# Altium schematic symbol library TAUV-Lib.SchLib: 493 symbols (part 4 of 5)
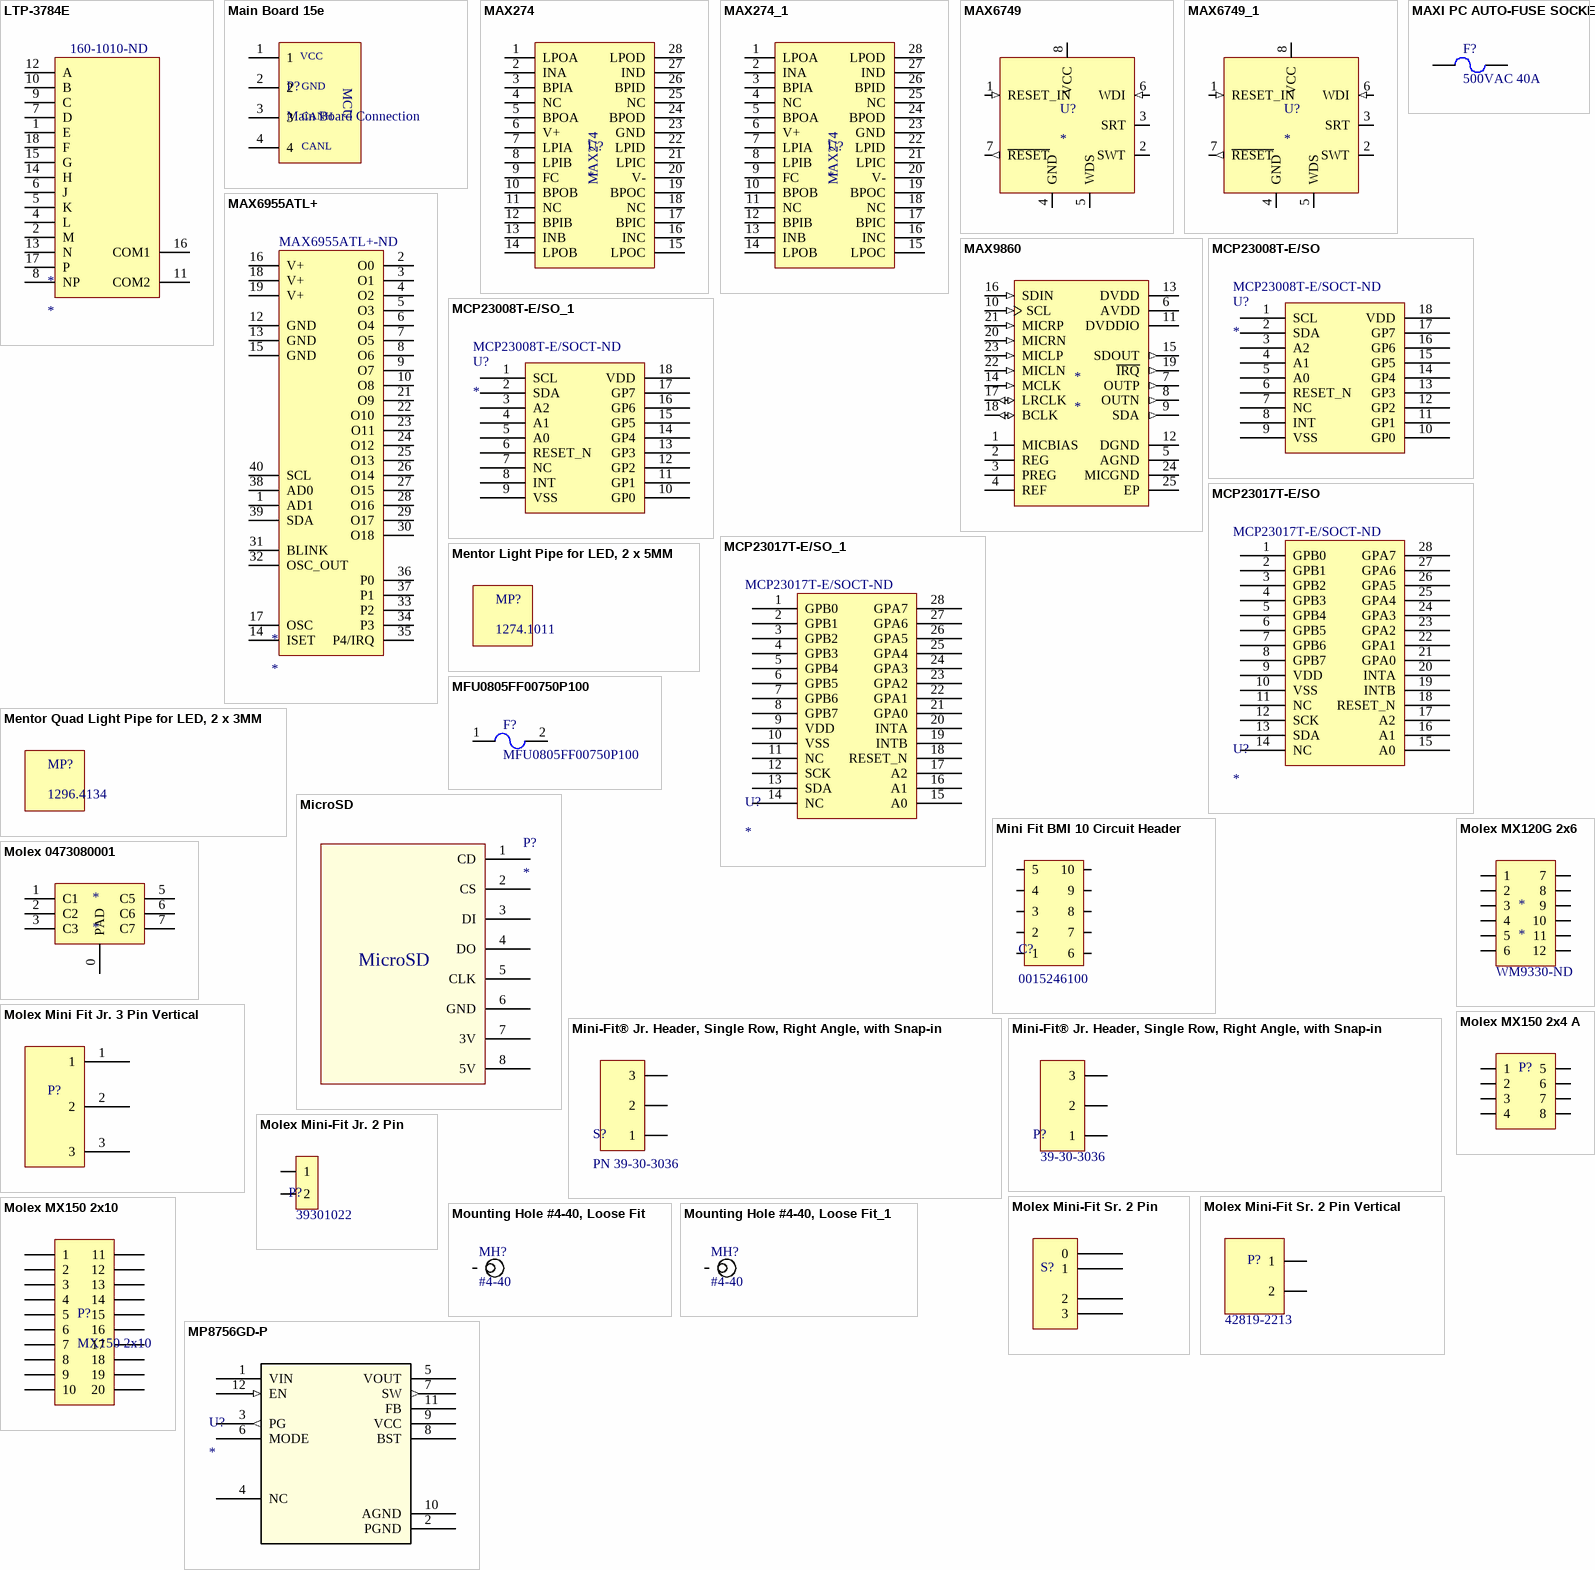
[diagram p17: symbols LTP-3784E to MP8756GD-P]

## Molex MX120G 2x6
designator *  Supplier Part Number 1: WM9330-ND
CONN HEADR 12POS 3.2MM SEALED; Manufacturer: Molex, LLC; Manufacturer Part Number: 0367831201; Connector Type: Header; Pitch - Mating: 0.126" (3.20mm); Number of Positions: 12; Row Spacing - Mating: 0.233" (5.93mm); Number of Positions Loaded: All; Style: Board to Cable/Wire; Shrouding: Shrouded - 4 Wall; Ingress Protection: IP67 - Dust Tight, Waterproof; Material Flammability Rating: UL94 HB; Supplier 1: Digi-Key; RoHS: RoHS Compliant; Category: Connectors, Interconnects; Stock 1: 13538; Pricing 1: 1=1.38, 10=1.21, 100=1.0437, 500=0.85392, 1000=0.75904, 5000=0.66416, 10000=0.63095 (USD); Packaging: Bulk; Part Status: Active; Contact Type: Male Pin; Number of Rows: 2; Mounting Type: Panel Mount, Through Hole, Right Angle; Termination: Solder; Fastening Type: Locking Ramp; Contact Length - Mating: -; Contact Length - Post: -; Overall Contact Length: -; Insulation Height: 0.649" (16.49mm); Contact Shape: Square; Contact Finish - Mating: Tin; Contact Finish Thickness - Mating: 39µin (1.00µm); Contact Finish - Post: Tin; Contact Material: Brass; Insulation Material: Polyamide (PA), Nylon, Glass Filled; Features: Board Lock; Operating Temperature: -; Insulation Color: Black; Current Rating: -; Voltage Rating: -; Mated Stacking Heights: -; Contact Finish Thickness - Post: -; Applications: Automotive, Industrial, Lighting, Medical; ComponentLink1URL: http://www.molex.com/pdm_docs/sd/367831201_sd.pdf; ComponentLink1Description: http://www.molex.com/pdm_docs/sd/367831201_sd.pdf
footprint MOLEX MX120G 2x6
pins: 1, 2, 3, 4, 5, 6, 7, 8, 9, 10, 11, 12

## Molex MX150 2x4 A
designator P?, comment MX150 2x4  (value not drawn)
MX150™ 2x4 Dual Row Right Angle Header, 8 Circuits, Polarization A, Black, Solder Tail; Part Number: 34830-0801; Wire Gauge: 14-22 AWG; Max Current: 22A; Max Voltage: 500 Vdc; Sealed: Yes; Rows: 2; Circuits: 8
footprint MOLEX MX150 2x4
pins: 1, 2, 3, 4, 5, 6, 7, 8

## Molex MX150 2x10
designator P?, comment MX150 2x10
MX150™ 2x10 Dual Row Right Angle Header, 20 Circuits, Polarization A, Black, Solder Tail; Part Number: 34830-2001; Rows: 2; Circuits: 20; Sealed: Yes; Max Current: 22A; Max Voltage: 250V
footprint MOLEX MX150 2X10
pins: 1, 2, 3, 4, 5, 6, 7, 8, 9, 10, 11, 12, 13, 14, 15, 16, 17, 18, 19, 20

## Mounting Hole #4-40, Loose Fit
designator MH?, comment #4-40
Mounting Hole for ANSI #4-40 w/ Flat Washer, Loose Fit; Datasheet: http://blogs.mentor.com/tom-hausherr/blog/tag/pcb-mounting-holes/
footprint Mounting Hole #4-40 (Mounting Hole for ANSI #4-40 w/ Flat Washer, Loose Fit)
pins: 0

## Mounting Hole #4-40, Loose Fit_1
designator MH?, comment #4-40
Mounting Hole for ANSI #4-40 w/ Flat Washer, Loose Fit; Datasheet: http://blogs.mentor.com/tom-hausherr/blog/tag/pcb-mounting-holes/
footprint Mounting Hole #4-40 (Mounting Hole for ANSI #4-40 w/ Flat Washer, Loose Fit)
pins: 0

## MP8756GD-P
designator U?
No Description Available; Mfr_Name: Monolithic Power Systems; RefDes: RefDes; Type: Type
footprint QFN-12_MP8756_MNP
pins: 1 VIN (power), 2 PGND (power), 3 PG (out), 4 NC, 5 VOUT (power), 6 MODE, 7 SW (out), 8 BST (power), 9 VCC (power), 10 AGND (power), 11 FB, 12 EN (in)

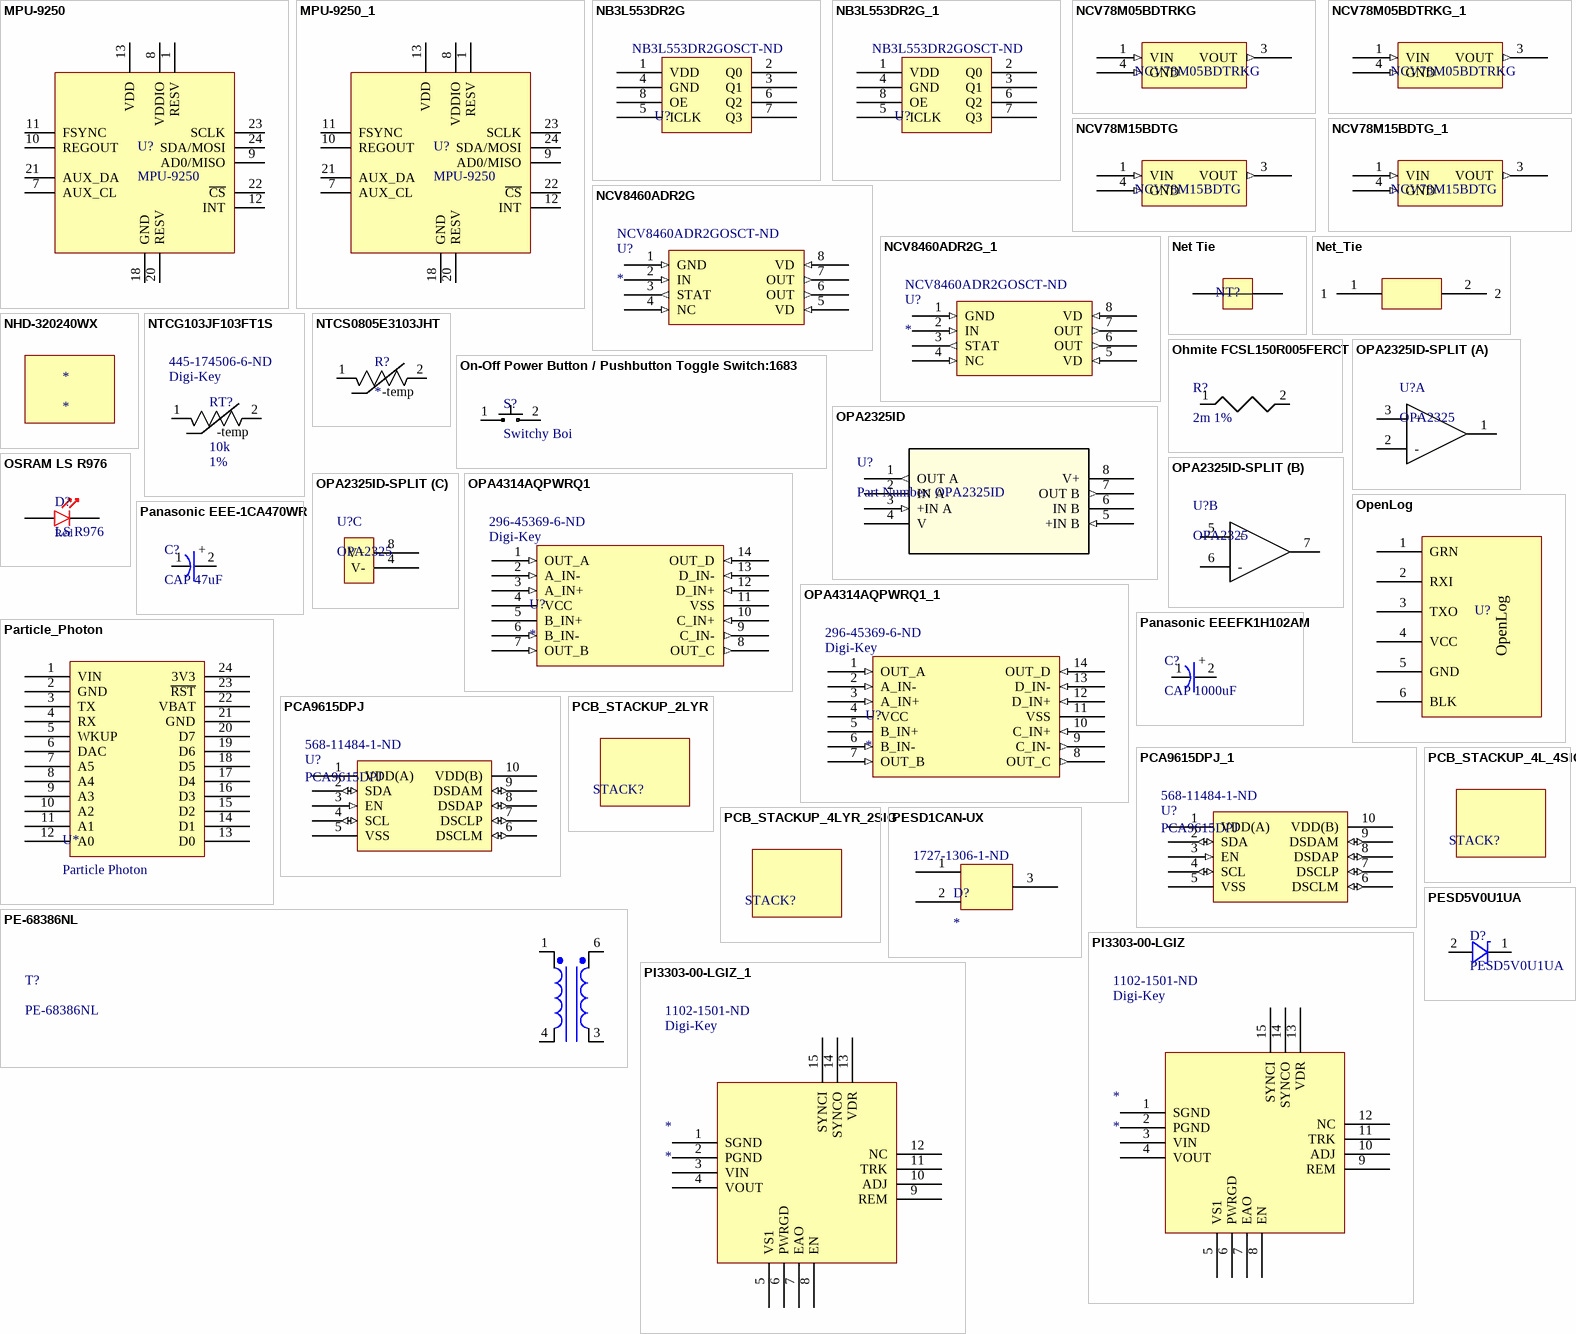
[diagram p9: symbols MPU-9250 to PI3303-00-LGIZ_1]

## MPU-9250
designator U?
InvenSense MPU-9250 9-axis IMU; Component Author: semerson; Datasheet: http://43zrtwysvxb2gf29r5o0athu.wpengine.netdna-cdn.com/wp-content/uploads/2015/02/MPU-9250-Datasheet.pdf; Manufacturer: InvenSense; Supplier 1: Digi-Key; Supplier Part Number 1: 1428-1019-1-ND
footprint MPU-9250 (InvenSense MPU-9250 9-axis IMU)
pins: 1 RESV, 7 AUX_CL, 8 VDDIO, 9 AD0/MISO, 10 REGOUT, 11 FSYNC, 12 INT, 13 VDD, 18 GND, 20 RESV, 21 AUX_DA, 22 ~{CS}, 23 SCLK, 24 SDA/MOSI

## MPU-9250_1
designator U?, comment MPU-9250
InvenSense MPU-9250 9-axis IMU; Component Author: semerson; Datasheet: http://43zrtwysvxb2gf29r5o0athu.wpengine.netdna-cdn.com/wp-content/uploads/2015/02/MPU-9250-Datasheet.pdf; Manufacturer: InvenSense; Supplier 1: Digi-Key; Supplier Part Number 1: 1428-1019-1-ND
footprint MPU-9250 (InvenSense MPU-9250 9-axis IMU)
pins: 1 RESV, 7 AUX_CL, 8 VDDIO, 9 AD0/MISO, 10 REGOUT, 11 FSYNC, 12 INT, 13 VDD, 18 GND, 20 RESV, 21 AUX_DA, 22 ~{CS}, 23 SCLK, 24 SDA/MOSI

## NB3L553DR2G
designator U?  Supplier Part Number 1: NB3L553DR2GOSCT-ND
IC CLK BUFFER 1:4 200MHZ 8SOIC; Supplier 1: Digi-Key
footprint SOIC127P600X175-8N-L (SOIC, 8-Leads, Body 4.90x3.90mm, Pitch 1.27mm, IPC Medium Density)
pins: 1 VDD, 2 Q0, 3 Q1, 4 GND, 5 ICLK, 6 Q2, 7 Q3, 8 OE

## NB3L553DR2G_1
designator U?  Supplier Part Number 1: NB3L553DR2GOSCT-ND
IC CLK BUFFER 1:4 200MHZ 8SOIC; Supplier 1: Digi-Key
footprint SOIC127P600X175-8N-L (SOIC, 8-Leads, Body 4.90x3.90mm, Pitch 1.27mm, IPC Medium Density)
pins: 1 VDD, 2 Q0, 3 Q1, 4 GND, 5 ICLK, 6 Q2, 7 Q3, 8 OE

## NCV78M05BDTRKG
designator NCV78M05BDTRKG  (value not drawn)
http://www.onsemi.com/pub/Collateral/MC78M00-D.PDF; Manufacturer p#: NCV78M05BDTRKG; Voltage in: <35V; Voltage out: 5V; Supplier: Digikey; Supplier p#: NCV78M05BDTRKGOSCT-ND
footprint TO-252 (D-PAK)
pins: 1 VIN (in), 3 VOUT (out), 4 GND (in)

## NCV78M05BDTRKG_1
designator NCV78M05BDTRKG  (value not drawn)
http://www.onsemi.com/pub/Collateral/MC78M00-D.PDF; Manufacturer p#: NCV78M05BDTRKG; Voltage in: <35V; Voltage out: 5V; Supplier: Digikey; Supplier p#: NCV78M05BDTRKGOSCT-ND
footprint TO-252 (D-PAK)
pins: 1 VIN (in), 3 VOUT (out), 4 GND (in)

## NCV78M15BDTG
designator NCV78M15BDTG  (value not drawn)
http://www.onsemi.com/pub/Collateral/MC78M00-D.PDF; Manufacturer p#: NCV78M15BDTG; Voltage in: <35V; Voltage out: 15V; Supplier: Digikey; Supplier p#: NCV78M15BDTG-ND
footprint TO-252 (D-PAK)
pins: 1 VIN (in), 3 VOUT (out), 4 GND (in)

## NCV78M15BDTG_1
designator NCV78M15BDTG  (value not drawn)
http://www.onsemi.com/pub/Collateral/MC78M00-D.PDF; Manufacturer p#: NCV78M15BDTG; Voltage in: <35V; Voltage out: 15V; Supplier: Digikey; Supplier p#: NCV78M15BDTG-ND
footprint TO-252 (D-PAK)
pins: 1 VIN (in), 3 VOUT (out), 4 GND (in)

## NCV8460ADR2G
designator U?  Supplier Part Number 1: NCV8460ADR2GOSCT-ND
IC DRIVER HIGH SIDE 8SOIC; ComponentLink1Description: Digikey Link; ComponentLink1URL: https://www.digikey.com/product-detail/en/on-semiconductor/NCV8460ADR2G/NCV8460ADR2GOSCT-ND/5969028; Supplier 1: Digi-Key
footprint SOIC127P600X175-8N (SOIC, 8-Leads, Body 4.90x3.90mm, Pitch 1.27mm, IPC Medium Density)
pins: 1 GND (in), 2 IN (in), 3 STAT (out), 4 NC (in), 5 VD (in), 6 OUT (out), 7 OUT (out), 8 VD (in)

## NCV8460ADR2G_1
designator U?  Supplier Part Number 1: NCV8460ADR2GOSCT-ND
IC DRIVER HIGH SIDE 8SOIC; ComponentLink1Description: Digikey Link; ComponentLink1URL: https://www.digikey.com/product-detail/en/on-semiconductor/NCV8460ADR2G/NCV8460ADR2GOSCT-ND/5969028; Supplier 1: Digi-Key
footprint SOIC127P600X175-8N (SOIC, 8-Leads, Body 4.90x3.90mm, Pitch 1.27mm, IPC Medium Density)
pins: 1 GND (in), 2 IN (in), 3 STAT (out), 4 NC (in), 5 VD (in), 6 OUT (out), 7 OUT (out), 8 VD (in)

## Net Tie
designator NT?  (value not drawn)  (net tie, no BOM)
Use to tie together nets
footprint Net_Tie_80mil
footprint Net_Tie_100mil
footprint Net_Tie_120mil
footprint Net_Tie_160mil
footprint Net_Tie_20MIL
pins: 1, 2

## Net_Tie
designator *  (value not drawn)  (net tie, no BOM)
footprint Net_Tie
pins: 1, 2

## NHD-320240WX
designator *
footprint NHD-320240WX (LCD Display)

## NTCG103JF103FT1S
designator RT?, comment value 10k  Tolerance: 1%  Supplier 1: Digi-Key  Supplier Part Number 1: 445-174506-6-ND  (hidden comment: NTC THERMISTOR 10K OHM 1% 0402)
Datasheet: http://www.bitechnologies.com/pdfs/22.pdf
footprint NTCG103JF103FT1S
pins: 1, 2
text: -temp

## NTCS0805E3103JHT
designator R?
NTC THERMISTOR R_25C = 10k, B=3380K; mfg p#: NTCG163JF103FTDS; Supplier Part #: 445-174516-1-ND; Datasheet: https://product.tdk.com/info/en/catalog/datasheets/503022/tpd_automotive_ntc-thermistor_ntcg_en.pdf
footprint 0603 NTC Thermistor (THERMISTOR NTC 10KOHM 3380K 0603)
pins: 1, 2
text: -temp

## Ohmite FCSL150R005FERCT
designator R?, comment 2m 1%
2m 1% 10W SMD Shunt Resistor; ComponentLink1Description: digikey; ComponentLink1URL: https://www.digikey.com/product-detail/en/ohmite/FCSL150R005FER/FCSL150R005FERCT-ND/4976432
footprint FCSL150
pins: 1, 2

## On-Off Power Button / Pushbutton Toggle Switch:1683
designator S?, comment Switchy Boi
On-Off Power Button / Pushbutton Toggle Switch:1683
footprint Pushbutton Toggle Switch (On-Off Power Button / Pushbutton Toggle Switch:1683)
pins: 1, 2

## OPA2325ID
designator U?, comment Part Number: OPA2325ID
No Description Available; Vendor: Texas Instruments; Built_By: EMA_Molly; Manufacturer_Part_Number: OPA2325ID; Copyright: Copyright (C) 2018 Accelerated Designs. All rights reserved; RefDes: RefDes; Type: DEV; Value: Value
footprint D8
pins: 1 OUT A (out), 2 IN A, 3 +IN A (in), 4 V, 5 +IN B (in), 6 IN B, 7 OUT B (out), 8 V+ (power)

## OPA2325ID-SPLIT
designator U?, comment OPA2325
part A pins: 1, 2 -, 3 +
part B pins: 5 +, 6 -, 7
part C pins: 4 V-, 8 V+

## OPA4314AQPWRQ1
designator U?  Supplier 1: Digi-Key  Supplier Part Number 1: 296-45369-6-ND
IC OP AMP GP RR 3MHZ 14TSSOP; ComponentLink1Description: Digikey Link; ComponentLink1URL: https://www.digikey.com/product-detail/en/texas-instruments/OPA4314AQPWRQ1/296-45369-1-ND/6618324
footprint OPA4314AQPWRQ1
pins: 1 OUT_A (in), 2 A_IN- (in), 3 A_IN+ (in), 4 VCC (power), 5 B_IN+ (power), 6 B_IN- (in), 7 OUT_B (in), 8 OUT_C (out), 9 C_IN- (out), 10 C_IN+ (in), 11 VSS (power), 12 D_IN+ (in), 13 D_IN- (in), 14 OUT_D (in)

## OPA4314AQPWRQ1_1
designator U?  Supplier 1: Digi-Key  Supplier Part Number 1: 296-45369-6-ND
IC OP AMP GP RR 3MHZ 14TSSOP; ComponentLink1Description: Digikey Link; ComponentLink1URL: https://www.digikey.com/product-detail/en/texas-instruments/OPA4314AQPWRQ1/296-45369-1-ND/6618324
footprint OPA4314AQPWRQ1
pins: 1 OUT_A (in), 2 A_IN- (in), 3 A_IN+ (in), 4 VCC (power), 5 B_IN+ (power), 6 B_IN- (in), 7 OUT_B (in), 8 OUT_C (out), 9 C_IN- (out), 10 C_IN+ (in), 11 VSS (power), 12 D_IN+ (in), 13 D_IN- (in), 14 OUT_D (in)

## OpenLog
designator U?  (value not drawn)
Open Source Data Logger; Datasheet: https://github.com/sparkfun/OpenLog/wiki/datasheet
footprint OpenLog (Openlog serial data logger)
pins: 1 GRN, 2 RXI, 3 TXO, 4 VCC, 5 GND, 6 BLK

## OSRAM LS R976
designator D?, comment LS R976  Color: Red
OSRAM CHIPLED 0805 Red, LSR976; Datasheet: http://www.osram-os.com/Graphics/XPic8/00078896_0.pdf; Manufacturer: OSRAM; Manufacturer Part Number: LS R976; Supplier 1: Digi-Key; Supplier Part Number 1: 475-1278-1-ND
footprint OSRAM LS R976 (OSRAM CHIPLED 0805 RED)
pins: 1, 2

## Panasonic EEE-1CA470WR
designator C?, comment CAP 47uF
16V 47uF Electrolytic Capacitor; Part: PCE4848CT-ND; Rated Voltage: 50 V; Capacitance: 1000 uF; Tolerance: 20%; Chemistry: Aluminum Electrolytic; Supplier: Digikey; ComponentLink1Description: digikey; ComponentLink1URL: https://www.digikey.com/product-detail/en/panasonic-electronic-components/EEE-1CA470WR/PCE3890TR-ND/766057
footprint EEE-1CA470WR
pins: 1, 2
text: +

## Panasonic EEEFK1H102AM
designator C?, comment CAP 1000uF
50V 1000uF Electrolytic Capacitor; Part: PCE4848CT-ND; Tolerance: 20%; Chemistry: Aluminum Electrolytic; Rated Voltage: 50 V; Capacitance: 1000 uF; Supplier: Digikey; ComponentLink1Description: Digikey; ComponentLink1URL: https://www.digikey.com/product-detail/en/panasonic-electronic-components/EEE-FK1H102AM/PCE4848CT-ND/1879879
footprint EEEFK1H102AM
pins: 1, 2
text: +

## Particle_Photon
designator U*, comment Particle Photon
footprint Particle Photon
footprint PARTICLE_PHOTON_SMD
pins: 1 VIN, 2 GND, 3 TX, 4 RX, 5 WKUP, 6 DAC, 7 A5, 8 A4, 9 A3, 10 A2, 11 A1, 12 A0, 13 D0, 14 D1, 15 D2, 16 D3, 17 D4, 18 D5, 19 D6, 20 D7, 21 GND, 22 VBAT, 23 ~{RST}, 24 3V3

## PCA9615DPJ
designator U?  Supplier Part Number 1: 568-11484-1-ND
IC REDRIVER I2C 2CH 10TSSOP; Supplier 1: Digi-Key
footprint TSSOP50P490X110-10N (TSSOP, 10-Leads, Body 3.00x3.00mm, Pitch 0.50mm, IPC Medium Density)
pins: 1 VDD(A) (power), 2 SDA (io), 3 EN (in), 4 SCL (io), 5 VSS (power), 6 DSCLM (io), 7 DSCLP (io), 8 DSDAP (io), 9 DSDAM (io), 10 VDD(B) (power)

## PCA9615DPJ_1
designator U?, comment PCA9615DPJ  Supplier Part Number 1: 568-11484-1-ND
IC REDRIVER I2C 2CH 10TSSOP; Supplier 1: Digi-Key
footprint TSSOP50P490X110-10N (TSSOP, 10-Leads, Body 3.00x3.00mm, Pitch 0.50mm, IPC Medium Density)
pins: 1 VDD(A) (power), 2 SDA (io), 3 EN (in), 4 SCL (io), 5 VSS (power), 6 DSCLM (io), 7 DSCLP (io), 8 DSDAP (io), 9 DSDAM (io), 10 VDD(B) (power)

## PCB_STACKUP_2LYR
designator STACK?, comment STACKUP_2LYR  (value not drawn)
DEFAULT STACKUP, 2 LAYER
footprint STACKUP 2-LAYER (Two Layer PCB Stackup Note)

## PCB_STACKUP_4L_4SIG
designator STACK?, comment STACKUP_4LYR_4SIG  (value not drawn)
DEFAULT STACKUP, 4 LAYER, 4 SIGNAL
footprint STACKUP 4-LAYER 4-SIG (Four Layer PCB Stackup Note, 4 Signal Layers)

## PCB_STACKUP_4LYR_2SIG
designator STACK?, comment STACKUP_4LYR_2SIG  (value not drawn)
DEFAULT STACKUP, 4 LAYER, 2 SIGNAL
footprint STACKUP 4-LAYER 2-SIG (Four Layer PCB Stackup Note, 2 Signal Layer)

## PE-68386NL
designator T?
Transformers Audio & Signal THT Gate Drive 785uH .6Ohms; Part Number: PE-68386NL; Supplier: Mouser; Supplier Part Number: 673-PE-68386NL; Datasheet URL: www.mouser.com/ds/2/336/-179963.pdf
pins: 1, 3, 4, 6

## PESD1CAN-UX
designator D?  Supplier Part Number 1: 1727-1306-1-ND
TVS DIODE 24VWM 50VC SC70; Supplier 1: Digi-Key
footprint SOT65P210X110-3N (SOT23, 3-Leads, Body 2.00x2.10mm, Pitch 0.65mm, IPC Medium Density)
pins: 1, 2, 3

## PESD5V0U1UA
designator D?
TVS DIODE 5VWM SOD3232; Part Number: PESD5V0U1UA,115; Supplier: DigiKey; Supplier Part Number: 568-4670-1-ND; Datasheet URL: http://assets.nexperia.com/documents/data-sheet/PESD5V0U1UA_UB_UL.pdf
footprint PESD5V0U1UA (SODFL, 2-Leads, Body 1.25x2.50mm, IPC Medium Density)
pins: 1 NPNB (oc), 2 NPNB (oc)

## PI3303-00-LGIZ
designator *  Supplier 1: Digi-Key  Supplier Part Number 1: 1102-1501-ND
footprint LGA123C100P14X10_1400X1000X260 (LGA, 123-Leads, Body 14.00x10.00mmx2.60mm, Pitch 1.00mm)
pins: 1 SGND, 2 PGND, 3 VIN, 4 VOUT, 5 VS1, 6 PWRGD, 7 EAO, 8 EN, 9 REM, 10 ADJ, 11 TRK, 12 NC, 13 VDR, 14 SYNCO, 15 SYNCI

## PI3303-00-LGIZ_1
designator *  Supplier 1: Digi-Key  Supplier Part Number 1: 1102-1501-ND
footprint LGA123C100P14X10_1400X1000X260 (LGA, 123-Leads, Body 14.00x10.00mmx2.60mm, Pitch 1.00mm)
pins: 1 SGND, 2 PGND, 3 VIN, 4 VOUT, 5 VS1, 6 PWRGD, 7 EAO, 8 EN, 9 REM, 10 ADJ, 11 TRK, 12 NC, 13 VDR, 14 SYNCO, 15 SYNCI

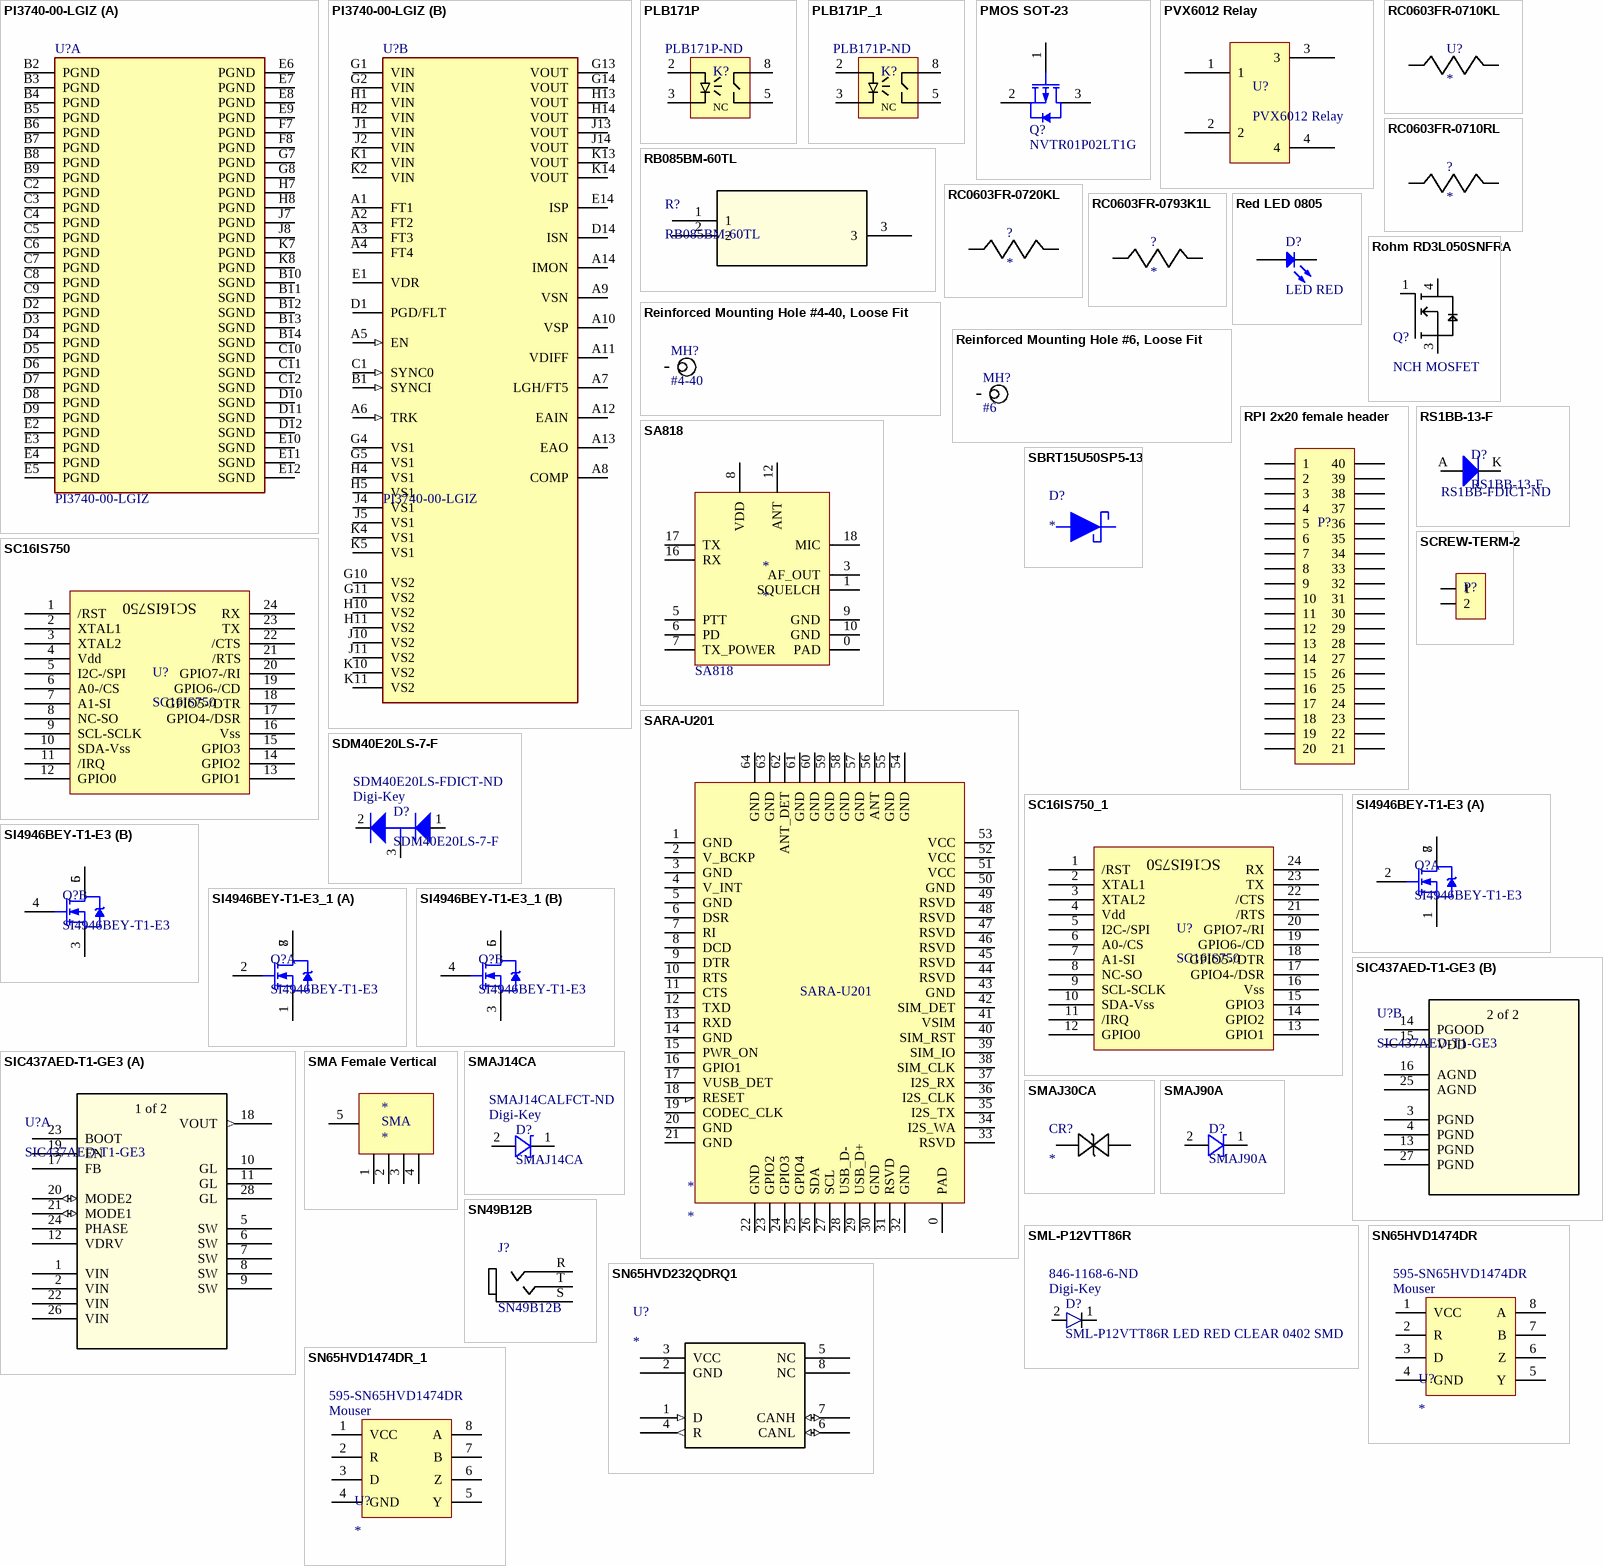
[diagram p10: symbols PI3740-00-LGIZ to SN65HVD1474DR_1]

## PI3740-00-LGIZ
designator U?
DC DC CONVERTER 10-50V; Max Output Current: 6.5A; Max Input Voltage: 60V; Voltage - Output 1: 50V; Min Input Voltage: 8V; Efficiency: 96%; Number of Outputs: 1; Max Operating Temperature: 115°C; Features: UVLO; Series: Cool-Power® (140W); RoHS Compliant: Yes; Min Operating Temperature: -40°C; Mount: Surface Mount; Case/Package: LGA; Packaging: Tray; ComponentLink1Description: Link; ComponentLink1URL: https://www.digikey.com/en/products/detail/vicor-corporation/PI3740-00-LGIZ/6573281
footprint FP-PI3740-00-LGIZ-MFG
part A pins: B2 PGND (power), B3 PGND (power), B4 PGND (power), B5 PGND (power), B6 PGND (power), B7 PGND (power), B8 PGND (power), B9 PGND (power), B10 SGND (power), B11 SGND (power), B12 SGND (power), B13 SGND (power), B14 SGND (power), C2 PGND (power), C3 PGND (power), C4 PGND (power), C5 PGND (power), C6 PGND (power), C7 PGND (power), C8 PGND (power), C9 PGND (power), C10 SGND (power), C11 SGND (power), C12 SGND (power), D2 PGND (power), D3 PGND (power), D4 PGND (power), D5 PGND (power), D6 PGND (power), D7 PGND (power), D8 PGND (power), D9 PGND (power), D10 SGND (power), D11 SGND (power), D12 SGND (power), E2 PGND (power), E3 PGND (power), E4 PGND (power), E5 PGND (power), E6 PGND (power), E7 PGND (power), E8 PGND (power), E9 PGND (power), E10 SGND (power), E11 SGND (power), E12 SGND (power), F7 PGND (power), F8 PGND (power), G7 PGND (power), G8 PGND (power), H7 PGND (power), H8 PGND (power), J7 PGND (power), J8 PGND (power), K7 PGND (power), K8 PGND (power)
part B pins: A1 FT1, A2 FT2, A3 FT3, A4 FT4, A5 EN (in), A6 TRK (in), A7 LGH/FT5, A8 COMP, A9 VSN (hiz), A10 VSP (hiz), A11 VDIFF, A12 EAIN (hiz), A13 EAO, A14 IMON, B1 SYNCI (in), C1 SYNC0 (in), D1 PGD/FLT (power), D14 ISN (hiz), E1 VDR (power), E14 ISP (hiz), G1 VIN (power), G2 VIN (power), G4 VS1, G5 VS1, G10 VS2, G11 VS2, G13 VOUT (power), G14 VOUT (power), H1 VIN (power), H2 VIN (power), H4 VS1, H5 VS1, H10 VS2, H11 VS2, H13 VOUT (power), H14 VOUT (power), J1 VIN (power), J2 VIN (power), J4 VS1, J5 VS1, J10 VS2, J11 VS2, J13 VOUT (power), J14 VOUT (power), K1 VIN (power), K2 VIN (power), K4 VS1, K5 VS1, K10 VS2, K11 VS2, K13 VOUT (power), K14 VOUT (power)

## PLB171P
designator K?  Supplier Part Number 1: PLB171P-ND
SSR RELAY SPST-NC 80MA 0-800V; Value: Value; Type: Type; RefDes: RefDes; Supplier 1: Digi-Key
footprint PLB171P (SOP, 8-Leads, Body 9.65x6.35mm, Pitch 2.54mm, IPC Medium Density)
pins: 2 CTRL+, 3 CTRL-, 5 Load_3, 8 LOAD_4
text: NC

## PLB171P_1
designator K?  Supplier Part Number 1: PLB171P-ND
SSR RELAY SPST-NC 80MA 0-800V; Value: Value; Type: Type; RefDes: RefDes; Supplier 1: Digi-Key
footprint PLB171P (SOP, 8-Leads, Body 9.65x6.35mm, Pitch 2.54mm, IPC Medium Density)
pins: 2 CTRL+, 3 CTRL-, 5 Load_3, 8 LOAD_4
text: NC

## PMOS SOT-23
designator Q?, comment NVTR01P02LT1G
Power MOSFET, -20 V, -1.3 A, P-Channel, 3-Pin SOT-23, Pb-Free, Tape and Reel; Manufacturer: On Semiconductor; Ciss Typ (pF): 225; Configuration: Single; Coss Typ (pF): 130; PD Max (W): 0.4; ID Max (A): 1.3; Crss Typ (pF): 55; VGS Max (V): 12; V(BR)DSS Min (V): 20; VGS(th) Max (V): 1.25; Qrr Typ (nC): 8.5; Channel Polarity: P Channel; ComponentLink1URL: http://www.onsemi.com/; PackageReference: SOT-23-3-318-08; RoHS: Pb-Free; ComponentLink1Description: Manufacturer URL; PackageDescription: 3-Pin Small Outline Transistor, Body 2.92 x 1.3 mm, Pitch 0.95 mm; ComponentLink3Description: Package Specification; ComponentLink2Description: Datasheet; Package Type: SOT-23-3; ComponentLink2URL: http://www.onsemi.cn/pub_link/Collateral/NTR1P02LT1-D.PDF; Packing: Tape and Reel; Mounting Technology: Surface Mount; ComponentLink3URL: http://www.onsemi.cn/pub_link/Collateral/318-08.PDF; PartNumber: NVTR01P02LT1G; PackageVersion: Rev. AP, 11/2009; DatasheetVersion: Rev. 13; ComponentLink4Description: Link; ComponentLink4URL: https://www.digikey.com/en/products/detail/vishay-siliconix/IRF9Z34STRLPBF/856689?s=N4IgTCBcDaIJICUBiBOAWgZgCwGUAqCAMgAoBCSIAugL5A
footprint ONSC-SOT-23-3-318-08_V (SOT23, 3-Leads, Body 2.92x1.3mm, Pitch 0.95mm)
pins: 1 G, 2 S, 3 D

## PVX6012 Relay
designator U?
IC RELAY PHOTOVO 400V 1A 14-DIP; Part Number: PVX6012PBF; Source Part Number: PVX6012PBF-ND; Source: Digi-key; Datasheet: http://www.irf.com/product-info/datasheets/data/pvx6012.pdf
footprint PVX6012 Relay (PVS6012 Relay)
pins: 1, 2, 3, 4

## RB085BM-60TL
designator R?
No Description Available; Mfr_Name: ROHM Semiconductor; Copyright: Copyright (C) 2022 Ultra Librarian. All rights reserved.; Manufacturer_Part_Number: RB085BM-60TL; Digi-Key_Part_Number_1: RB085BM-60TLCT-ND; Digi-Key_Part_Number_2: RB085BM-60TLDKR-ND; Digi-Key_Part_Number_3: RB085BM-60TLTR-ND; RefDes: RefDes; Type: DEV
footprint DIO_RR601BM4_ROM
pins: 1, 2, 3

## RC0603FR-0710KL
designator U?
No Description Available; PartNumber: RC0603FR-0710KL; Manufacturer: Yageo America; Manufacturer_Name: Yageo; Resistance: 23200.0; Power: 0.063; Tolerance: 1.0; Manufacturer_Part_Number: RC0603FR-0710KL; Copyright: Copyright (C) 2018 Accelerated Designs. All rights reserved; RefDes: RefDes; Type: DEV; Value: Value
footprint 0603
pins: 1, 2

## RC0603FR-0710RL
designator ?
No Description Available; Manufacturer_Part_Number: RC0603FR-0710RL; Manufacturer_Name: Yageo; Resistance: 10.0; Power: 0.1; Tolerance: 1.0; Vendor: Yageo America; Copyright: Copyright (C) 2018 Accelerated Designs. All rights reserved; RefDes: RefDes; Type: DEV; Value: Value
footprint 0603
pins: 1, 2

## RC0603FR-0720KL
designator ?
No Description Available; Manufacturer_Part_Number: RC0603FR-0720KL; Manufacturer_Name: Yageo; Resistance: 20000.0; Power: 0.1; Tolerance: 1.0; Vendor: Yageo America; Copyright: Copyright (C) 2018 Accelerated Designs. All rights reserved; RefDes: RefDes; Type: DEV; Value: Value
footprint 0603
pins: 1, 2

## RC0603FR-0793K1L
designator ?
No Description Available; Manufacturer_Part_Number: RC0603FR-0793K1L; Manufacturer_Name: Yageo; Resistance: 93100.0; Power: 0.1; Tolerance: 1.0; Vendor: Yageo America; Copyright: Copyright (C) 2018 Accelerated Designs. All rights reserved; RefDes: RefDes; Type: DEV; Value: Value
footprint 0603
pins: 1, 2

## Red LED 0805
designator D?, comment LED RED
led / LTST-C171KRKT; Manufacturer: Lite-On Inc.; Lens Color: Colorless; Lens Transparency: Clear; Millicandela Rating: 54mcd; Lens Style/Size: Rectangle with Flat Top, 1.40mm x 1.25mm; Voltage - Forward (Vf) (Typ): 2V; Current - Test: 20mA; Viewing Angle: 130°; Wavelength - Dominant: 631nm; Wavelength - Peak: 639nm; Supplier 1: Digi-Key; Supplier Part Number 1: 160-1427-1-ND; Manufacturer Part Number: LTST-C171KRKT; RoHS: RoHS Compliant; Category: Optoelectronics; Stock 1: 260544; Pricing 1: 1=0.31, 10=0.225, 25=0.1656, 100=0.1183, 250=0.0804, 500=0.07096, 1000=0.05558 (USD); Packaging: Cut Tape (CT); Part Status: Active; Color: Red; Mounting Type: Surface Mount; Features: -; Package / Case: 0805 (2012 Metric); Size / Dimension: 2.00mm L x 1.25mm W; Height (Max): 0.80mm; ComponentLink1URL: http://optoelectronics.liteon.com/upload/download/DS22-2000-109/LTST-C171KRKT.pdf; ComponentLink1Description: http://optoelectronics.liteon.com/upload/download/DS22-2000-109/LTST-C171KRKT.pdf; ComponentLink2Description: Link; ComponentLink2URL: https://www.digikey.com/en/products/detail/liteon/LTST-C171KRKT/386801
simulation model LED0 (Diode)
footprint C0805 (Chip Capacitor, Body 2.0x1.3mm, IPC High Density)
footprint 0805
pins: 1 K, 2 A

## Reinforced Mounting Hole #4-40, Loose Fit
designator MH?, comment #4-40
Mounting Hole for ANSI #4-40 w/ Flat Washer, Loose Fit; Datasheet: http://blogs.mentor.com/tom-hausherr/blog/tag/pcb-mounting-holes/
footprint Reinforced Mounting Hole #4-40 (Mounting Hole for ANSI #4-40 w/ Flat Washer, Loose Fit, via in ring)
pins: 0

## Reinforced Mounting Hole #6, Loose Fit
designator MH?, comment #6
Mounting Hole for ANSI #6 w/ Flat Washer, Loose Fit; Datasheet: http://blogs.mentor.com/tom-hausherr/blog/tag/pcb-mounting-holes/
footprint Reinforced Mounting Hole #6 (Mounting Hole for ANSI #6 w/ Flat Washer, Loose Fit, via in ring)
pins: 0

## Rohm RD3L050SNFRA
designator Q?, comment NCH MOSFET
AUTOMOTIVE NCH 60V 5A POWER MOSFET; ComponentLink1Description: digikey; ComponentLink1URL: https://www.digikey.com/product-detail/en/rohm-semiconductor/RD3L050SNFRATL/RD3L050SNFRATLCT-ND/9561230
footprint DPAK230P1000X230-3N (D-PAK, 3-Pads, Body 6.30x6.76mm (max), IPC Medium Density)
pins: 1, 3, 4

## RPI 2x20 female header
designator P?
Part Number: 34830-2001; Rows: 2; Circuits: 20; Sealed: Yes; Max Current: 22A; Max Voltage: 250V
footprint 2x20 header
pins: 1, 2, 3, 4, 5, 6, 7, 8, 9, 10, 11, 12, 13, 14, 15, 16, 17, 18, 19, 20, 21, 22, 23, 24, 25, 26, 27, 28, 29, 30, 31, 32, 33, 34, 35, 36, 37, 38, 39, 40

## RS1BB-13-F
designator D?  Supplier Part Number 1: RS1BB-FDICT-ND
Diode, 100V 1A 1.3V forward voltage; Datasheet: http://www.diodes.com/_files/datasheets/ds15002.pdf; Supplier 1: Digi-Key
footprint RS1BB-13-F
pins: A, K

## SA818
designator *  Part Number: SA818
Walkie-Talkie Module; Datasheet: http://www.dorji.com/docs/data/DRA818U.pdf
footprint SA818
pins: 0 PAD, 1 SQUELCH, 3 AF_OUT, 5 PTT, 6 PD, 7 TX_POWER, 8 VDD, 9 GND, 10 GND, 12 ANT, 16 RX, 17 TX, 18 MIC

## SARA-U201
designator *  Part Number: SARA-U201
Cellular Module
footprint SARA-U2 (Cellular Module)
pins: 0 PAD "Ground all central pads", 1 GND, 2 V_BCKP, 3 GND, 4 V_INT, 5 GND, 6 DSR, 7 RI, 8 DCD, 9 DTR, 10 RTS, 11 CTS, 12 TXD, 13 RXD, 14 GND, 15 PWR_ON, 16 GPIO1, 17 VUSB_DET, 18 RESET, 19 CODEC_CLK, 20 GND, 21 GND, 22 GND, 23 GPIO2, 24 GPIO3, 25 GPIO4, 26 SDA, 27 SCL, 28 USB_D-, 29 USB_D+, 30 GND, 31 RSVD, 32 GND, 33 RSVD, 34 I2S_WA, 35 I2S_TX, 36 I2S_CLK, 37 I2S_RX, 38 SIM_CLK, 39 SIM_IO, 40 SIM_RST, 41 VSIM, 42 SIM_DET, 43 GND, 44 RSVD, 45 RSVD, 46 RSVD, 47 RSVD, 48 RSVD, 49 RSVD, 50 GND, 51 VCC, 52 VCC, 53 VCC, 54 GND, 55 GND, 56 ANT, 57 GND, 58 GND, 59 GND, 60 GND, 61 GND, 62 ANT_DET, 63 GND, 64 GND

## SBRT15U50SP5-13
designator D?
Supplier 1: Digi-Key; Supplier Part Number 1: SBRT15U50SP5-13DICT-ND; ComponentLink1Description: Link; ComponentLink1URL: *https://www.digikey.com/en/products/detail/diodes-incorporated/SBRT15U50SP5-13/4567773
footprint SBRT15U50SP5-13
pins: 1, 2

## SC16IS750
designator U?
SPI -> UART; Source Part Number: 568-2234-ND; Manufacturer: NXP Semiconductors; Manufacturer Part Number: SC16IS750IBS,151; Source: Digikey
footprint SC16IS750IBS (SPI->UART)
pins: 1 /RST, 2 XTAL1, 3 XTAL2, 4 Vdd, 5 I2C-/SPI, 6 A0-/CS, 7 A1-SI, 8 NC-SO, 9 SCL-SCLK, 10 SDA-Vss, 11 /IRQ, 12 GPIO0, 13 GPIO1, 14 GPIO2, 15 GPIO3, 16 Vss, 17 GPIO4-/DSR, 18 GPIO5-/DTR, 19 GPIO6-/CD, 20 GPIO7-/RI, 21 /RTS, 22 /CTS, 23 TX, 24 RX

## SC16IS750_1
designator U?, comment SC16IS750
SPI -> UART; Source Part Number: 568-2234-ND; Manufacturer: NXP Semiconductors; Manufacturer Part Number: SC16IS750IBS,151; Source: Digikey
footprint SC16IS750IBS (SPI->UART)
pins: 1 /RST, 2 XTAL1, 3 XTAL2, 4 Vdd, 5 I2C-/SPI, 6 A0-/CS, 7 A1-SI, 8 NC-SO, 9 SCL-SCLK, 10 SDA-Vss, 11 /IRQ, 12 GPIO0, 13 GPIO1, 14 GPIO2, 15 GPIO3, 16 Vss, 17 GPIO4-/DSR, 18 GPIO5-/DTR, 19 GPIO6-/CD, 20 GPIO7-/RI, 21 /RTS, 22 /CTS, 23 TX, 24 RX

## SCREW-TERM-2
designator P?  (value not drawn)
DigiKey ED10561-ND
footprint SCREW-TERM-2 (Footprint not found)
pins: 1, 2

## SDM40E20LS-7-F
designator D?  Supplier 1: Digi-Key  Supplier Part Number 1: SDM40E20LS-FDICT-ND
Diode Array 1 Pair Series Connection Schottky 20V 400mA (DC) Surface Mount SOT-23-3; ComponentLink1Description: Digikey Link; ComponentLink1URL: https://www.digikey.com/product-detail/en/diodes-incorporated/SDM40E20LS-7-F/SDM40E20LS-FDICT-ND/815980; ComponentLink2Description: Datasheet; ComponentLink2URL: https://www.diodes.com/assets/Datasheets/ds30298.pdf
footprint SOT-23-3_ SDM40E20LS-7-F (SOT23, 3-Leads, Body 2.93x2.40mm, Pitch 0.95mm, IPC Medium Density)
pins: 1, 2, 3

## SI4946BEY-T1-E3
designator Q?
Dual N-Channel FET, Power, Logic Level Gate; Currrent: 6.5A; Vgs(th): 3V; Vds(max): 60V; Supplier 1: Mouser; Supplier 2: Digi-Key; Supplier 3: Digi-Key; Supplier 4: Digi-Key; Supplier Part Number 1: 781-SI4946BEY-E3; Supplier Part Number 2: SI4946BEY-T1-E3TR-ND; Supplier Part Number 3: SI4946BEY-T1-E3CT-ND; Supplier Part Number 4: SI4946BEY-T1-E3DKR-ND
footprint SOIC-8
part A pins: 1 SOURCE1, 2 GATE1, 7 DRAIN1, 8 DRAIN1
part B pins: 3 SOURCE2, 4 GATE2, 5 DRAIN2, 6 DRAIN2

## SI4946BEY-T1-E3_1
designator Q?, comment SI4946BEY-T1-E3
Dual N-Channel FET, Power, Logic Level Gate; Currrent: 6.5A; Vgs(th): 3V; Vds(max): 60V; Supplier 1: Mouser; Supplier 2: Digi-Key; Supplier 3: Digi-Key; Supplier 4: Digi-Key; Supplier Part Number 1: 781-SI4946BEY-E3; Supplier Part Number 2: SI4946BEY-T1-E3TR-ND; Supplier Part Number 3: SI4946BEY-T1-E3CT-ND; Supplier Part Number 4: SI4946BEY-T1-E3DKR-ND
footprint SOIC-8
part A pins: 1 SOURCE1, 2 GATE1, 7 DRAIN1, 8 DRAIN1
part B pins: 3 SOURCE2, 4 GATE2, 5 DRAIN2, 6 DRAIN2

## SIC437AED-T1-GE3
designator U?
No Description Available; Mfr_Name: Vishay; Copyright: Copyright (C) 2022 Ultra Librarian. All rights reserved.; Manufacturer_Part_Number: SIC437AED-T1-GE3; Digi-Key_Part_Number_1: SIC437AED-T1-GE3TR-ND; Digi-Key_Part_Number_2: SIC437AED-T1-GE3CT-ND; Digi-Key_Part_Number_3: SIC437AED-T1-GE3DKR-ND; RefDes: RefDes; Type: DEV
footprint QFN_ED-T1-GE3_VIS
footprint QFN_ED-T1-GE3_VIS
part A pins: 1 VIN, 2 VIN, 5 SW, 6 SW, 7 SW, 8 SW, 9 SW, 10 GL, 11 GL, 12 VDRV, 17 FB, 18 VOUT (out), 19 EN, 20 MODE2 (io), 21 MODE1 (io), 22 VIN, 23 BOOT, 24 PHASE, 26 VIN, 28 GL
part B pins: 3 PGND, 4 PGND, 13 PGND, 14 PGOOD (power), 15 VDD (power), 16 AGND, 25 AGND, 27 PGND
part A text: 1 of 2
part B text: 2 of 2

## SMA Female Vertical
designator *
Manufacturer: TE Connectivity; Manufacturer Part Number: 5-1814832-1
footprint SMA FEMALE VERTICAL
pins: 1 MOUNT, 2 MOUNT, 3 MOUNT, 4 MOUNT, 5 SIGNAL
text: SMA

## SMAJ14CA
designator D?  Supplier 1: Digi-Key  Supplier Part Number 1: SMAJ14CALFCT-ND
TVS DIODE 14VWM 23.2VC SMA; Part Number: SMAJ90A-E3/61; Supplier: DigiKey; Supplier Part Number: SMAJ90A-E3/61GICT-ND; Datasheet URL: http://www.vishay.com/docs/88390/smaj50a.pdf; ComponentLink1Description: Digikey Link; ComponentLink1URL: https://www.digikey.com/product-detail/en/littelfuse-inc/SMAJ14CA/SMAJ14CALFCT-ND/762487
footprint SMAJ14CA (Molded Diode, 2-Leads, Body 4.25x2.67mm, IPC Medium Density)
pins: 1 (power), 2 (power)

## SMAJ30CA
designator CR?
No Description Available; Mfr_Name: Littelfuse Inc; Digi-Key_Part_Number_8: SMAJ30CALFTR-ND; Digi-Key_Part_Number_7: SMAJ30CALFDKR-ND; Digi-Key_Part_Number_1: 2516-SMAJ30CATR-ND; Digi-Key_Part_Number_2: 2997-SMAJ30CATR-ND; Digi-Key_Part_Number_3: SMAJ30CABCT-ND; Digi-Key_Part_Number_4: SMAJ30CABDKR-ND; Digi-Key_Part_Number_5: SMAJ30CABTR-ND; Digi-Key_Part_Number_6: SMAJ30CALFCT-ND
footprint SMASeries_LTF
pins: 1, 2

## SMAJ90A
designator D?
TVS DIODE 90VWM 146VC SMA; Part Number: SMAJ90A-E3/61; Supplier: DigiKey; Supplier Part Number: SMAJ90A-E3/61GICT-ND; Datasheet URL: http://www.vishay.com/docs/88390/smaj50a.pdf
footprint SMAJ90A (Molded Diode, 2-Leads, Body 4.25x2.67mm, IPC Medium Density)
pins: 1 NPNB (oc), 2 NPNB (oc)

## SML-P12VTT86R
designator D?, comment SML-P12VTT86R LED RED CLEAR 0402 SMD  Supplier 1: Digi-Key  Supplier Part Number 1: 846-1168-6-ND
Red 630nm LED Indication - Discrete 2V 0402; Vf @ 20mA: 3.4V (typ); Derated Current: 5 mA; Color: Blue; PN: LTST-C191TBKT; ComponentLink1Description: Digikey Link; ComponentLink1URL: https://www.digikey.com/product-detail/en/rohm-semiconductor/SML-P12VTT86R/846-1168-1-ND/5011427
footprint LED 0402
pins: 1, 2

## SN49B12B
designator J?
Connector 1/4 Phone Jack F 3 POS 7.62mm Solder RA Thru-Hole 6 Terminal 1 Port; MF: Switchcraft Inc.; SnapEDA_Link: https://www.snapeda.com/parts/SN49B12B/Switchcraft%20Inc./view-part/318220/?ref=snap; Digi-Key_Part_Number: SC1522-ND; Digi-Key_Purchase_URL: https://www.digikey.com/product-detail/en/switchcraft-inc/SN49B12B/SC1522-ND/412780?utm_source=snapeda&utm_medium=aggregator&utm_campaign=symbol; MP: SN49B12B; Package: None; Value: *
footprint *SWITCHCRAFT_SN49B12B_SN49B12B(Primary)
pins: R, S, T

## SN65HVD232QDRQ1
designator U?
Imported; Manufacturer: Texas Instruments; Manufacturer_Part_Number: SN65HVD232QDRQ1; Built_By: EMA_UL_Team; C: Copyright (C) 2015 Accelerated Designs. All rights reserved; Vendor: Texas Instruments; RefDes: RefDes; Type: DEV; Value: Value
footprint D8
pins: 1 D (in), 2 GND (power), 3 VCC (power), 4 R (out), 5 NC, 6 CANL (io), 7 CANH (io), 8 NC

## SN65HVD1474DR
designator U?  Supplier 1: Mouser  Supplier Part Number 1: 595-SN65HVD1474DR
RS-485 Interface IC 3.3V Full Dup RS-485 16kV IEC ESD, 20Mbps
footprint SN65HVD1474DR
pins: 1 VCC, 2 R, 3 D, 4 GND, 5 Y, 6 Z, 7 B, 8 A

## SN65HVD1474DR_1
designator U?  Supplier 1: Mouser  Supplier Part Number 1: 595-SN65HVD1474DR
RS-485 Interface IC 3.3V Full Dup RS-485 16kV IEC ESD, 20Mbps
footprint SN65HVD1474DR
pins: 1 VCC, 2 R, 3 D, 4 GND, 5 Y, 6 Z, 7 B, 8 A

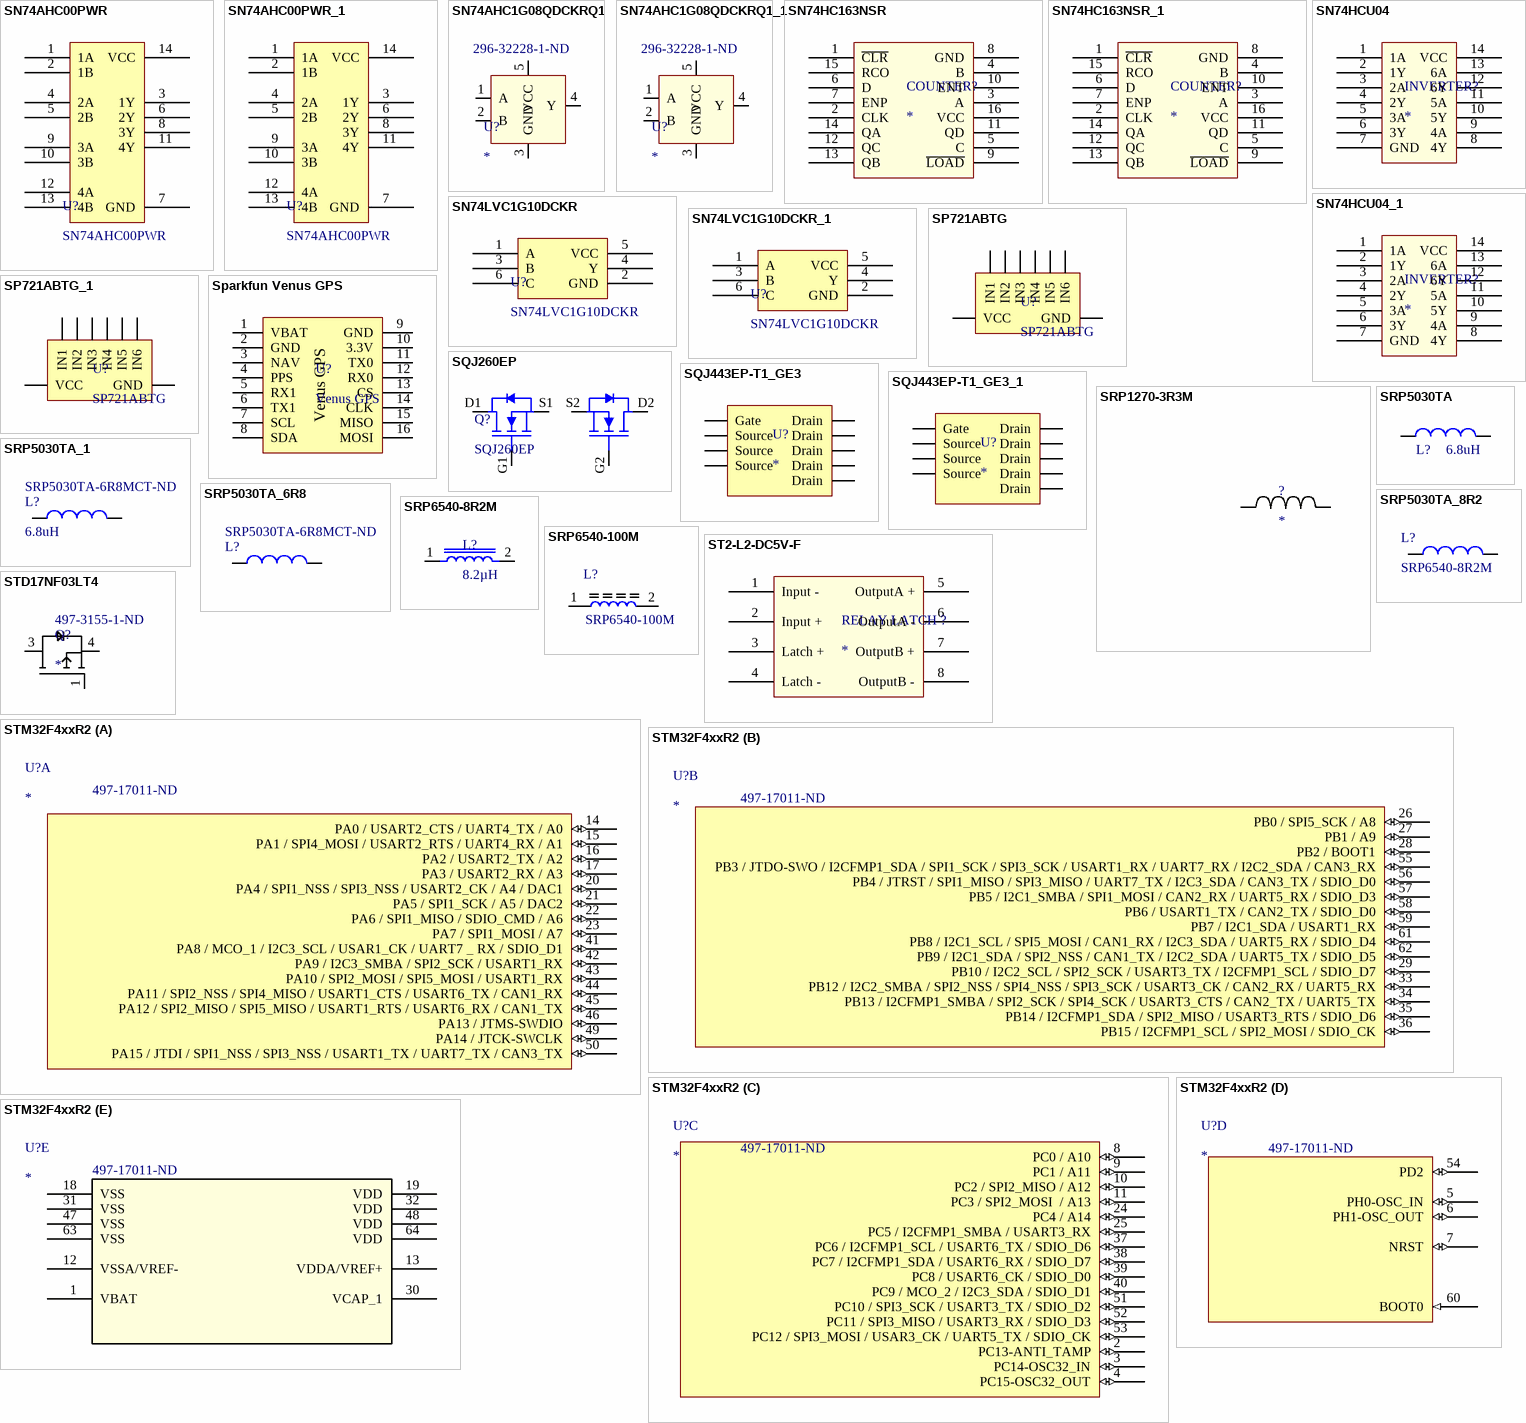
[diagram p11: symbols SN74AHC00PWR to STM32F4xxR2]

## SN74AHC00PWR
designator U?
Quad 2 input NAND gate; Manufacturer: Texas Instruments; Part Number: SN74AHC00PWR; Supplier 1: Digi-Key
footprint TSSOP14
pins: 1 1A, 2 1B, 3 1Y, 4 2A, 5 2B, 6 2Y, 7 GND, 8 3Y, 9 3A, 10 3B, 11 4Y, 12 4A, 13 4B, 14 VCC

## SN74AHC00PWR_1
designator U?, comment SN74AHC00PWR
Quad 2 input NAND gate; Manufacturer: Texas Instruments; Part Number: SN74AHC00PWR; Supplier 1: Digi-Key
footprint TSSOP14
pins: 1 1A, 2 1B, 3 1Y, 4 2A, 5 2B, 6 2Y, 7 GND, 8 3Y, 9 3A, 10 3B, 11 4Y, 12 4A, 13 4B, 14 VCC

## SN74AHC1G08QDCKRQ1
designator U?  Supplier Part Number 1: 296-32228-1-ND
2 Input Schmitt Trigger AND Gate; Part Number: SN74AHC1G08QDCKRQ1; Datasheet URL: http://www.ti.com/lit/ds/symlink/sn74ahc1g08-q1.pdf; Supplier 1: Digi-Key
footprint SC-70-5 (Used for 2 input and gate)
pins: 1 A, 2 B, 3 GND, 4 Y, 5 VCC

## SN74AHC1G08QDCKRQ1_1
designator U?  Supplier Part Number 1: 296-32228-1-ND
2 Input Schmitt Trigger AND Gate; Part Number: SN74AHC1G08QDCKRQ1; Datasheet URL: http://www.ti.com/lit/ds/symlink/sn74ahc1g08-q1.pdf; Supplier 1: Digi-Key
footprint SC-70-5 (Used for 2 input and gate)
pins: 1 A, 2 B, 3 GND, 4 Y, 5 VCC

## SN74HC163NSR
designator COUNTER?
footprint SOIC127P600X175-16N (SOIC, 16-Leads, Body 9.90x3.90mm, Pitch 1.27mm, IPC Medium Density)
pins: 1 ~{CLR}, 2 CLK, 3 A, 4 B, 5 C, 6 D, 7 ENP, 8 GND, 9 ~{LOAD}, 10 ENT, 11 QD, 12 QC, 13 QB, 14 QA, 15 RCO, 16 VCC

## SN74HC163NSR_1
designator COUNTER?
footprint SOIC127P600X175-16N (SOIC, 16-Leads, Body 9.90x3.90mm, Pitch 1.27mm, IPC Medium Density)
pins: 1 ~{CLR}, 2 CLK, 3 A, 4 B, 5 C, 6 D, 7 ENP, 8 GND, 9 ~{LOAD}, 10 ENT, 11 QD, 12 QC, 13 QB, 14 QA, 15 RCO, 16 VCC

## SN74HCU04
designator INVERTER?
footprint SOIC127P600X175-14N (SOIC, 14-Leads, Body 8.65x3.90mm, Pitch 1.27mm, IPC Medium Density)
pins: 1 1A, 2 1Y, 3 2A, 4 2Y, 5 3A, 6 3Y, 7 GND, 8 4Y, 9 4A, 10 5Y, 11 5A, 12 6Y, 13 6A, 14 VCC

## SN74HCU04_1
designator INVERTER?
footprint SOIC127P600X175-14N (SOIC, 14-Leads, Body 8.65x3.90mm, Pitch 1.27mm, IPC Medium Density)
pins: 1 1A, 2 1Y, 3 2A, 4 2Y, 5 3A, 6 3Y, 7 GND, 8 4Y, 9 4A, 10 5Y, 11 5A, 12 6Y, 13 6A, 14 VCC

## SN74LVC1G10DCKR
designator U?
3 input NAND gate; Manufacturer: Texas Instruments; Part Number: SN74LVC1G10DCKR; Supplier 1: Digi-Key
footprint TSSOP6
pins: 1 A, 2 GND, 3 B, 4 Y, 5 VCC, 6 C

## SN74LVC1G10DCKR_1
designator U?, comment SN74LVC1G10DCKR
3 input NAND gate; Manufacturer: Texas Instruments; Part Number: SN74LVC1G10DCKR; Supplier 1: Digi-Key
footprint TSSOP6
pins: 1 A, 2 GND, 3 B, 4 Y, 5 VCC, 6 C

## SP721ABTG
designator U?
TVS Diode Array, 6 input, 30V; Manufacturer: Littelfuse, Inc; Datasheet: http://www.littelfuse.com/~/media/electronics/datasheets/tvs_diode_arrays/littelfuse_tvs_diode_array_sp721_datasheet.pdf.pdf; Manufacturer Part Number: SP721ABTG; Supplier 1: Digi-Key; Supplier Part Number 1: F3163CT-ND
footprint SOIC-8
pins: 1 IN1, 2 IN2, 3 IN3, 4 GND, 5 IN4, 6 IN5, 7 IN6, 8 VCC

## SP721ABTG_1
designator U?, comment SP721ABTG
TVS Diode Array, 6 input, 30V; Manufacturer: Littelfuse, Inc; Datasheet: http://www.littelfuse.com/~/media/electronics/datasheets/tvs_diode_arrays/littelfuse_tvs_diode_array_sp721_datasheet.pdf.pdf; Manufacturer Part Number: SP721ABTG; Supplier 1: Digi-Key; Supplier Part Number 1: F3163CT-ND
footprint SOIC-8
pins: 1 IN1, 2 IN2, 3 IN3, 4 GND, 5 IN4, 6 IN5, 7 IN6, 8 VCC

## Sparkfun Venus GPS
designator U?, comment Venus GPS
Sparkfun Venus GPS Module
footprint Sparkfun Venus GPS (Sparkfun Venus GPS Module)
pins: 1 VBAT, 2 GND, 3 NAV, 4 PPS, 5 RX1, 6 TX1, 7 SCL, 8 SDA, 9 GND, 10 3.3V, 11 TX0, 12 RX0, 13 CS, 14 CLK, 15 MISO, 16 MOSI

## SQJ260EP
designator Q?
Automotive Dual N-Channel 60 V (D-S) 175 °C MOSFETs; Supplier: Digikey; Part Number: SQJ260EP; Supplier Part Number: SQJ260EP-T1_GE3CT-ND; Datasheet URL: https://www.diodes.com/assets/Datasheets/ds30896.pdf
footprint SQJ260EP (Automotive Dual N-Channel 60 V (D-S) 175 °C MOSFETs)
pins: D1, D2, G1, G2, S1, S2

## SQJ443EP-T1_GE3
designator U?
MOSFET P-CH 40V 40A POWERPAKSO-8; Manufacturer: Vishay Siliconix; Manufacturer Part Number: SQJ443EP-T1_GE3; Supplier: Digikey; Max current: 40A; Supplier Part Number: SQJ443EP-T1_GE3CT-ND
footprint TRANS_SQJ461EP-T1-GE3
pins: 1 Gate, 2 Source, 3 Source, 4 Source, 5 Drain, 6 Drain, 7 Drain, 8 Drain, 9 Drain

## SQJ443EP-T1_GE3_1
designator U?
MOSFET P-CH 40V 40A POWERPAKSO-8; Manufacturer: Vishay Siliconix; Manufacturer Part Number: SQJ443EP-T1_GE3; Supplier: Digikey; Max current: 40A; Supplier Part Number: SQJ443EP-T1_GE3CT-ND
footprint TRANS_SQJ461EP-T1-GE3
pins: 1 Gate, 2 Source, 3 Source, 4 Source, 5 Drain, 6 Drain, 7 Drain, 8 Drain, 9 Drain

## SRP1270-3R3M
designator ?
No Description Available; Manufacturer_Part_Number: SRP1270-3R3M; L: 3.3E-6; DCR: 0.0066; IDC: 18.0; Vendor: Bourns; Manufacturer_Name: Bourns; Copyright: Copyright (C) 2018 Accelerated Designs. All rights reserved; RefDes: RefDes; Type: DEV; Value: Value
footprint SRP1270
pins: 1, 2

## SRP5030TA
designator L?, comment 6.8uH
Manufacturer: Bourns Inc.; Manufacturer Part Number: SRP5030TA-6R8M; Type: Wirewound; Material - Core: Carbonyl Powder; Tolerance: ±20%; Shielding: Shielded; DC Resistance (DCR): 76.2 mOhm Max; Q @ Freq: 15 @ 100kHz; Supplier 1: Digi-Key; RoHS: RoHS Compliant; Category: Inductors, Coils, Chokes; Stock 1: 5626; Pricing 1: 1=1.51, 10=1.397, 100=0.9781, 500=0.79178, 1000=0.72191 (USD); Packaging: Cut Tape (CT); Part Status: Active; Ratings: AEC-Q200; Operating Temperature: -40°C ~ 150°C; Mounting Type: Surface Mount; Package / Case: Nonstandard; Supplier Device Package: -; Size / Dimension: 0.224" L x 0.205" W (5.70mm x 5.20mm); Height - Seated (Max): 0.118" (3.00mm); ComponentLink1URL: http://www.bourns.com/docs/Product-Datasheets/SRP5030TA.pdf; ComponentLink1Description: http://www.bourns.com/docs/Product-Datasheets/SRP5030TA.pdf; Supplier Part Number 1: SRP5030TA-6R8MCT-ND; ComponentLink2Description: Link; ComponentLink2URL: https://www.digikey.com/en/products/detail/bourns-inc/SRP5030TA-6R8M/5429675?s=N4IgjCBcoEwAwA4DsVQGMoDMCGAbAzgKYA0IA9lANogBsAdAgAQCtAEiALqkAOALlCACqAOwCWvAPKYAsoWz4ArgCdCIAL5rSMKiADKAJQAKAVjgBmOABUAgpzVA
footprint BOURNS SRP5030T (Precision Wire Wound Inductor, 2-Leads, Body 5.70x5.20mm, IPC Medium Density)
pins: 1, 2

## SRP5030TA_1
designator L?, comment 6.8uH  Supplier Part Number 1: SRP5030TA-6R8MCT-ND
Manufacturer: Bourns Inc.; Manufacturer Part Number: SRP5030TA-6R8M; Type: Wirewound; Material - Core: Carbonyl Powder; Tolerance: ±20%; Shielding: Shielded; DC Resistance (DCR): 76.2 mOhm Max; Q @ Freq: 15 @ 100kHz; Supplier 1: Digi-Key; RoHS: RoHS Compliant; Category: Inductors, Coils, Chokes; Stock 1: 5626; Pricing 1: 1=1.51, 10=1.397, 100=0.9781, 500=0.79178, 1000=0.72191 (USD); Packaging: Cut Tape (CT); Part Status: Active; Ratings: AEC-Q200; Operating Temperature: -40°C ~ 150°C; Mounting Type: Surface Mount; Package / Case: Nonstandard; Supplier Device Package: -; Size / Dimension: 0.224" L x 0.205" W (5.70mm x 5.20mm); Height - Seated (Max): 0.118" (3.00mm); ComponentLink1URL: http://www.bourns.com/docs/Product-Datasheets/SRP5030TA.pdf; ComponentLink1Description: http://www.bourns.com/docs/Product-Datasheets/SRP5030TA.pdf
footprint BOURNS SRP5030T (Precision Wire Wound Inductor, 2-Leads, Body 5.70x5.20mm, IPC Medium Density)
pins: 1, 2

## SRP5030TA_6R8
designator L?  Supplier Part Number 1: SRP5030TA-6R8MCT-ND
Manufacturer: Bourns Inc.; Manufacturer Part Number: SRP5030TA-6R8M; Type: Wirewound; Material - Core: Carbonyl Powder; Tolerance: ±20%; Shielding: Shielded; DC Resistance (DCR): 76.2 mOhm Max; Q @ Freq: 15 @ 100kHz; Supplier 1: Digi-Key; RoHS: RoHS Compliant; Category: Inductors, Coils, Chokes; Stock 1: 5626; Pricing 1: 1=1.51, 10=1.397, 100=0.9781, 500=0.79178, 1000=0.72191 (USD); Packaging: Cut Tape (CT); Part Status: Active; Ratings: AEC-Q200; Operating Temperature: -40°C ~ 150°C; Mounting Type: Surface Mount; Package / Case: Nonstandard; Supplier Device Package: -; Size / Dimension: 0.224" L x 0.205" W (5.70mm x 5.20mm); Height - Seated (Max): 0.118" (3.00mm); ComponentLink1URL: http://www.bourns.com/docs/Product-Datasheets/SRP5030TA.pdf; ComponentLink1Description: http://www.bourns.com/docs/Product-Datasheets/SRP5030TA.pdf
footprint BOURNS SRP5030T (Precision Wire Wound Inductor, 2-Leads, Body 5.70x5.20mm, IPC Medium Density)
pins: 1, 2

## SRP5030TA_8R2
designator L?, comment SRP6540-8R2M
ComponentLink1URL: http://www.bourns.com/docs/Product-Datasheets/SRP5030TA.pdf; ComponentLink1Description: http://www.bourns.com/docs/Product-Datasheets/SRP5030TA.pdf; Supplier 1: Digi-Key; Supplier Part Number 1: SRP6540-8R2MCT-ND
footprint BOURNS SRP5030T (Precision Wire Wound Inductor, 2-Leads, Body 5.70x5.20mm, IPC Medium Density)
pins: 1, 2

## SRP6540-8R2M
designator L?, comment 8.2µH
8.2µH Shielded Wirewound Inductor 4.5A 50.5mOhm Max Nonstandard; MP: SRP6540-8R2M; MF: Bourns; Package: Nonstandard Bourns; Digi-Key_Part_Number: SRP6540-8R2MCT-ND; Purchase-URL: https://pricing.snapeda.com/search/part/SRP6540-8R2M/?ref=eda; SnapEDA_Link: https://www.snapeda.com/parts/SRP6540-8R2M/Bourns/view-part/1329449/?ref=snap; Value: *; ComponentLink1Description: Link; ComponentLink1URL: https://www.digikey.com/en/products/detail/bourns-inc/SRP6540-8R2M/3986098?s=N4IgTCBcDaIMoCUAKA2ArAFgAwFoAcCYAsiALoC%2BQA
footprint IND_SRP6540-8R2M
pins: 1, 2

## SRP6540-100M
designator L?
Inductor Power Shielded/Molded Wirewound 10uH 20% 100KHz Powdered Iron 4A 78.5mOhm DCR T/R; MF: Bourns; Digi-Key_Part_Number: SRP6540-100MCT-ND; SnapEDA_Link: https://www.snapeda.com/parts/SRP6540-100M/Bourns/view-part/?ref=snap; Package: Nonstandard Bourns; MP: SRP6540-100M; Digi-Key_Purchase_URL: https://www.digikey.com/product-detail/en/bourns-inc/SRP6540-100M/SRP6540-100MCT-ND/3986041?utm_source=snapeda&utm_medium=aggregator&utm_campaign=symbol; Value: *
footprint IND_SRP6540-100M
pins: 1, 2

## ST2-L2-DC5V-F
designator RELAY LATCH ?
footprint ST2-L2-DC5V-F
pins: 1 Input -, 2 Input +, 3 Latch +, 4 Latch -, 5 OutputA +, 6 OutputA -, 7 OutputB +, 8 OutputB -

## STD17NF03LT4
designator Q?  Supplier Part Number 1: 497-3155-1-ND
MOSFET N-CH 30V 17A DPAK; Supplier 1: Digi-Key
footprint DPAK228P972X240-3N (D-PAK, 3-Pads, Body 6.20x6.66mm (max), IPC Medium Density)
pins: 1, 3, 4

## STM32F4xxR2
designator U?  Supplier Part Number 1: 497-17011-ND
Imported; Manufacturer_Part_Number: stm32f4xxr2; Vendor: STMicroelectronics; C: Copyright (C) 2016 Accelerated Designs. All rights reserved; Copyright: Copyright (C) 2016 Accelerated Designs. All rights reserved; RefDes: RefDes; Type: Type; Value: Value; Supplier 1: Digi-Key
footprint LQFP64-10x10mm
part A pins: 14 PA0 / USART2_CTS / UART4_TX / A0 (io), 15 PA1 / SPI4_MOSI / USART2_RTS / UART4_RX / A1 (io), 16 PA2 / USART2_TX / A2 (io), 17 PA3 / USART2_RX / A3 (io), 20 PA4 / SPI1_NSS / SPI3_NSS / USART2_CK / A4 / DAC1 (io), 21 PA5 / SPI1_SCK / A5 / DAC2 (io), 22 PA6 / SPI1_MISO / SDIO_CMD / A6 (io), 23 PA7 / SPI1_MOSI / A7 (io), 41 PA8 / MCO_1 / I2C3_SCL / USAR1_CK / UART7 _ RX / SDIO_D1 (io), 42 PA9 / I2C3_SMBA / SPI2_SCK / USART1_RX (io), 43 PA10 / SPI2_MOSI / SPI5_MOSI / USART1_RX (io), 44 PA11 / SPI2_NSS / SPI4_MISO / USART1_CTS / USART6_TX / CAN1_RX (io), 45 PA12 / SPI2_MISO / SPI5_MISO / USART1_RTS / USART6_RX / CAN1_TX (io), 46 PA13 / JTMS-SWDIO (io), 49 PA14 / JTCK-SWCLK (io), 50 PA15 / JTDI / SPI1_NSS / SPI3_NSS / USART1_TX / UART7_TX / CAN3_TX (io)
part B pins: 26 PB0 / SPI5_SCK / A8 (io), 27 PB1 / A9 (io), 28 PB2 / BOOT1 (io), 29 PB10 / I2C2_SCL / SPI2_SCK / USART3_TX / I2CFMP1_SCL / SDIO_D7 (io), 33 PB12 / I2C2_SMBA / SPI2_NSS / SPI4_NSS / SPI3_SCK / USART3_CK / CAN2_RX / UART5_RX (io), 34 PB13 / I2CFMP1_SMBA / SPI2_SCK / SPI4_SCK / USART3_CTS / CAN2_TX / UART5_TX (io), 35 PB14 / I2CFMP1_SDA / SPI2_MISO / USART3_RTS / SDIO_D6 (io), 36 PB15 / I2CFMP1_SCL / SPI2_MOSI / SDIO_CK (io), 55 PB3 / JTDO-SWO / I2CFMP1_SDA / SPI1_SCK / SPI3_SCK / USART1_RX / UART7_RX / I2C2_SDA / CAN3_RX (io), 56 PB4 / JTRST / SPI1_MISO / SPI3_MISO / UART7_TX / I2C3_SDA / CAN3_TX / SDIO_D0 (io), 57 PB5 / I2C1_SMBA / SPI1_MOSI / CAN2_RX / UART5_RX / SDIO_D3 (io), 58 PB6 / USART1_TX / CAN2_TX / SDIO_D0 (io), 59 PB7 / I2C1_SDA / USART1_RX (io), 61 PB8 / I2C1_SCL / SPI5_MOSI / CAN1_RX / I2C3_SDA / UART5_RX / SDIO_D4 (io), 62 PB9 / I2C1_SDA / SPI2_NSS / CAN1_TX / I2C2_SDA / UART5_TX / SDIO_D5 (io)
part C pins: 2 PC13-ANTI_TAMP (io), 3 PC14-OSC32_IN (io), 4 PC15-OSC32_OUT (io), 8 PC0 / A10 (io), 9 PC1 / A11 (io), 10 PC2 / SPI2_MISO / A12 (io), 11 PC3 / SPI2_MOSI  / A13 (io), 24 PC4 / A14 (io), 25 PC5 / I2CFMP1_SMBA / USART3_RX (io), 37 PC6 / I2CFMP1_SCL / USART6_TX / SDIO_D6 (io), 38 PC7 / I2CFMP1_SDA / USART6_RX / SDIO_D7 (io), 39 PC8 / USART6_CK / SDIO_D0 (io), 40 PC9 / MCO_2 / I2C3_SDA / SDIO_D1 (io), 51 PC10 / SPI3_SCK / USART3_TX / SDIO_D2 (io), 52 PC11 / SPI3_MISO / USART3_RX / SDIO_D3 (io), 53 PC12 / SPI3_MOSI / USAR3_CK / UART5_TX / SDIO_CK (io)
part D pins: 5 PH0-OSC_IN (io), 6 PH1-OSC_OUT (io), 7 NRST (io), 54 PD2 (io), 60 BOOT0 (in)
part E pins: 1 VBAT (power), 12 VSSA/VREF- (power), 13 VDDA/VREF+ (power), 18 VSS (power), 19 VDD (power), 30 VCAP_1 (power), 31 VSS (power), 32 VDD (power), 47 VSS (power), 48 VDD (power), 63 VSS (power), 64 VDD (power)

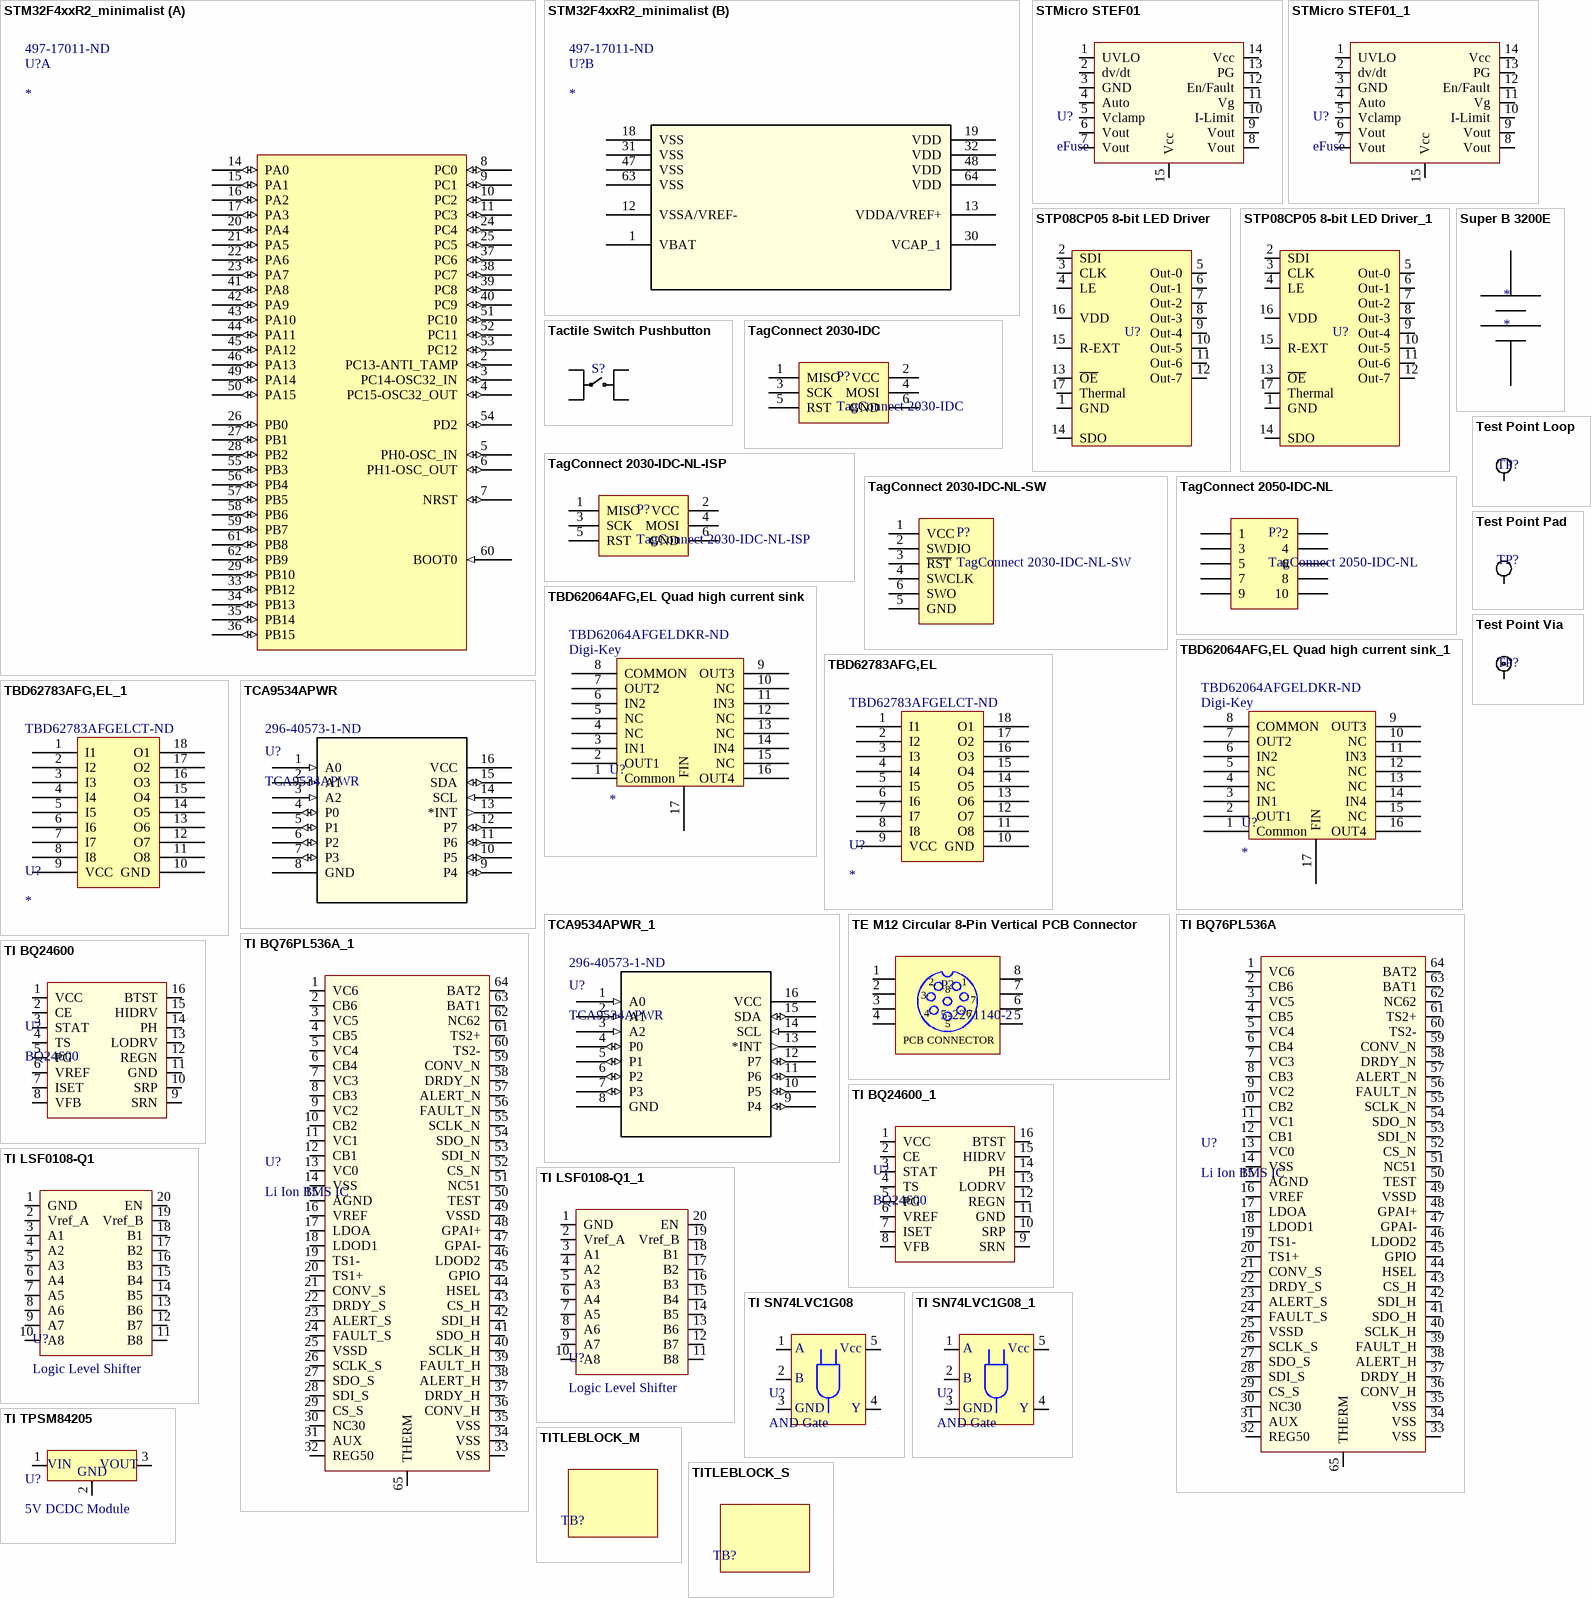
[diagram p12: symbols STM32F4xxR2_minimalist to TITLEBLOCK_S]

## STM32F4xxR2_minimalist
designator U?  Supplier Part Number 1: 497-17011-ND
Imported; Manufacturer_Part_Number: stm32f4xxr2; Vendor: STMicroelectronics; C: Copyright (C) 2016 Accelerated Designs. All rights reserved; Copyright: Copyright (C) 2016 Accelerated Designs. All rights reserved; RefDes: RefDes; Type: Type; Value: Value; Supplier 1: Digi-Key
footprint LQFP64-10x10mm
part A pins: 2 PC13-ANTI_TAMP (io), 3 PC14-OSC32_IN (io), 4 PC15-OSC32_OUT (io), 5 PH0-OSC_IN (io), 6 PH1-OSC_OUT (io), 7 NRST (io), 8 PC0 (io), 9 PC1 (io), 10 PC2 (io), 11 PC3 (io), 14 PA0 (io), 15 PA1 (io), 16 PA2 (io), 17 PA3 (io), 20 PA4 (io), 21 PA5 (io), 22 PA6 (io), 23 PA7 (io), 24 PC4 (io), 25 PC5 (io), 26 PB0 (io), 27 PB1 (io), 28 PB2 (io), 29 PB10 (io), 33 PB12 (io), 34 PB13 (io), 35 PB14 (io), 36 PB15 (io), 37 PC6 (io), 38 PC7 (io), 39 PC8 (io), 40 PC9 (io), 41 PA8 (io), 42 PA9 (io), 43 PA10 (io), 44 PA11 (io), 45 PA12 (io), 46 PA13 (io), 49 PA14 (io), 50 PA15 (io), 51 PC10 (io), 52 PC11 (io), 53 PC12 (io), 54 PD2 (io), 55 PB3 (io), 56 PB4 (io), 57 PB5 (io), 58 PB6 (io), 59 PB7 (io), 60 BOOT0 (in), 61 PB8 (io), 62 PB9 (io)
part B pins: 1 VBAT (power), 12 VSSA/VREF- (power), 13 VDDA/VREF+ (power), 18 VSS (power), 19 VDD (power), 30 VCAP_1 (power), 31 VSS (power), 32 VDD (power), 47 VSS (power), 48 VDD (power), 63 VSS (power), 64 VDD (power)

## STMicro STEF01
designator U?, comment eFuse
Electronic Fuse Regulator 4A 14-HTSSOP; ComponentLink1Description: digikey; ComponentLink1URL: https://www.digikey.com/product-detail/en/stmicroelectronics/STEF01FTR/497-17779-1-ND/8321893
footprint TSOP65P640X120_HS-15N (TSOP, 14-Leads, Body 5.00x4.40mm, Pitch 0.65mm, Thermal Pad 3.20x3.20mm, IPC Medium Density)
pins: 1 UVLO, 2 dv/dt, 3 GND, 4 Auto, 5 Vclamp, 6 Vout, 7 Vout, 8 Vout, 9 Vout, 10 I-Limit, 11 Vg, 12 En/Fault, 13 PG, 14 Vcc, 15 Vcc

## STMicro STEF01_1
designator U?, comment eFuse
Electronic Fuse Regulator 4A 14-HTSSOP; ComponentLink1Description: digikey; ComponentLink1URL: https://www.digikey.com/product-detail/en/stmicroelectronics/STEF01FTR/497-17779-1-ND/8321893
footprint TSOP65P640X120_HS-15N (TSOP, 14-Leads, Body 5.00x4.40mm, Pitch 0.65mm, Thermal Pad 3.20x3.20mm, IPC Medium Density)
pins: 1 UVLO, 2 dv/dt, 3 GND, 4 Auto, 5 Vclamp, 6 Vout, 7 Vout, 8 Vout, 9 Vout, 10 I-Limit, 11 Vg, 12 En/Fault, 13 PG, 14 Vcc, 15 Vcc

## STP08CP05 8-bit LED Driver
designator U?  (value not drawn)
footprint HTSSOP-16 Exposed Pad
pins: 1 GND, 2 SDI, 3 CLK, 4 LE, 5 Out-0, 6 Out-1, 7 Out-2, 8 Out-3, 9 Out-4, 10 Out-5, 11 Out-6, 12 Out-7, 13 ~{OE}, 14 SDO, 15 R-EXT, 16 VDD, 17 Thermal

## STP08CP05 8-bit LED Driver_1
designator U?, comment STP08CP05 8-bit LED Driver  (value not drawn)
footprint HTSSOP-16 Exposed Pad
pins: 1 GND, 2 SDI, 3 CLK, 4 LE, 5 Out-0, 6 Out-1, 7 Out-2, 8 Out-3, 9 Out-4, 10 Out-5, 11 Out-6, 12 Out-7, 13 ~{OE}, 14 SDO, 15 R-EXT, 16 VDD, 17 Thermal

## Super B 3200E
designator *
footprint Super B 3200 Terminals (Plated mounting holes to place on top of Super B 3200 and screw onto it. M5 Screws, 3.072" center-to-center spacing)
pins: 1 Negative, 2 Positive

## Tactile Switch Pushbutton
designator S?
footprint Tactile Switch Pushbutton
pins: 1, 2, 3, 4

## TagConnect 2030-IDC
designator P?
TagConnect 6-pin programming header; Manufacturer: Tag-Connect; Part Number: TC2030-IDC; Datasheet: http://www.tag-connect.com/Materials/TC2030-MCP%20PCB%20Footprint.pdf
footprint TagConnect 2030-IDC (Tag-Connect 6-Pin with Legs (PN# TC2030-IDC-NL))
pins: 1 MISO, 2 VCC, 3 SCK, 4 MOSI, 5 RST "VCC", 6 GND

## TagConnect 2030-IDC-NL-ISP
designator P?
TagConnect 6-pin ISP, legs; Manufacturer: Tag-Connect; Part Number: TC2030-IDC-NL; Datasheet: http://www.tag-connect.com/Materials/TC2030-MCP%20PCB%20Footprint.pdf
footprint TagConnect 2030-IDC-NL (Tag-Connect 6-Pin with No Legs (PN# TC2030-IDC-NL))
pins: 1 MISO, 2 VCC, 3 SCK, 4 MOSI, 5 RST "VCC", 6 GND

## TagConnect 2030-IDC-NL-SW
designator P?
TagConnect 6-pin SW, legs, for 20-pin Segger J-link; Manufacturer: Tag-Connect; Part Number: TC2030-IDC-NL; Datasheet: http://www.tag-connect.com/Materials/TC2030-MCP%20PCB%20Footprint.pdf
footprint TagConnect 2030-IDC-NL (Tag-Connect 6-Pin with No Legs (PN# TC2030-IDC-NL))
pins: 1 VCC "MISO", 2 SWDIO "VCC", 3 ~{RST} "SCK", 4 SWCLK "MOSI", 5 GND "VCC", 6 SWO "GND"

## TagConnect 2050-IDC-NL
designator P?
TagConnect 6-pin ISP, legs; Manufacturer: Tag-Connect; Part Number: TC2030-IDC-NL; Datasheet: http://www.tag-connect.com/Materials/TC2030-MCP%20PCB%20Footprint.pdf
footprint TagConnect 2050-IDC-NL (Tag-Connect 10-Pin with No Legs (PN# TC2050-IDC-NL))
pins: 1 "MISO", 2 "VCC", 3 "SCK", 4 "MOSI", 5 "VCC", 6 "GND", 7 "VCC", 8 "GND", 9 "VCC", 10 "GND"

## TBD62064AFG,EL Quad high current sink
designator U?  Supplier 1: Digi-Key  Supplier Part Number 1: TBD62064AFGELDKR-ND
4channel high current sink type DMOS transistor array; ComponentLink1Description: Digikey; ComponentLink1URL: https://www.digikey.com/product-detail/en/toshiba-semiconductor-and-storage/TBD62064AFGEL/TBD62064AFGELCT-ND/6022000
footprint HSOP16
pins: 1 Common, 2 OUT1, 3 IN1, 4 NC, 5 NC, 6 IN2, 7 OUT2, 8 COMMON, 9 OUT3, 10 NC, 11 IN3, 12 NC, 13 NC, 14 IN4, 15 NC, 16 OUT4, 17 FIN